# Altium integrated library SparkFun-Retired.IntLib: 389 symbols (part 2 of 4)
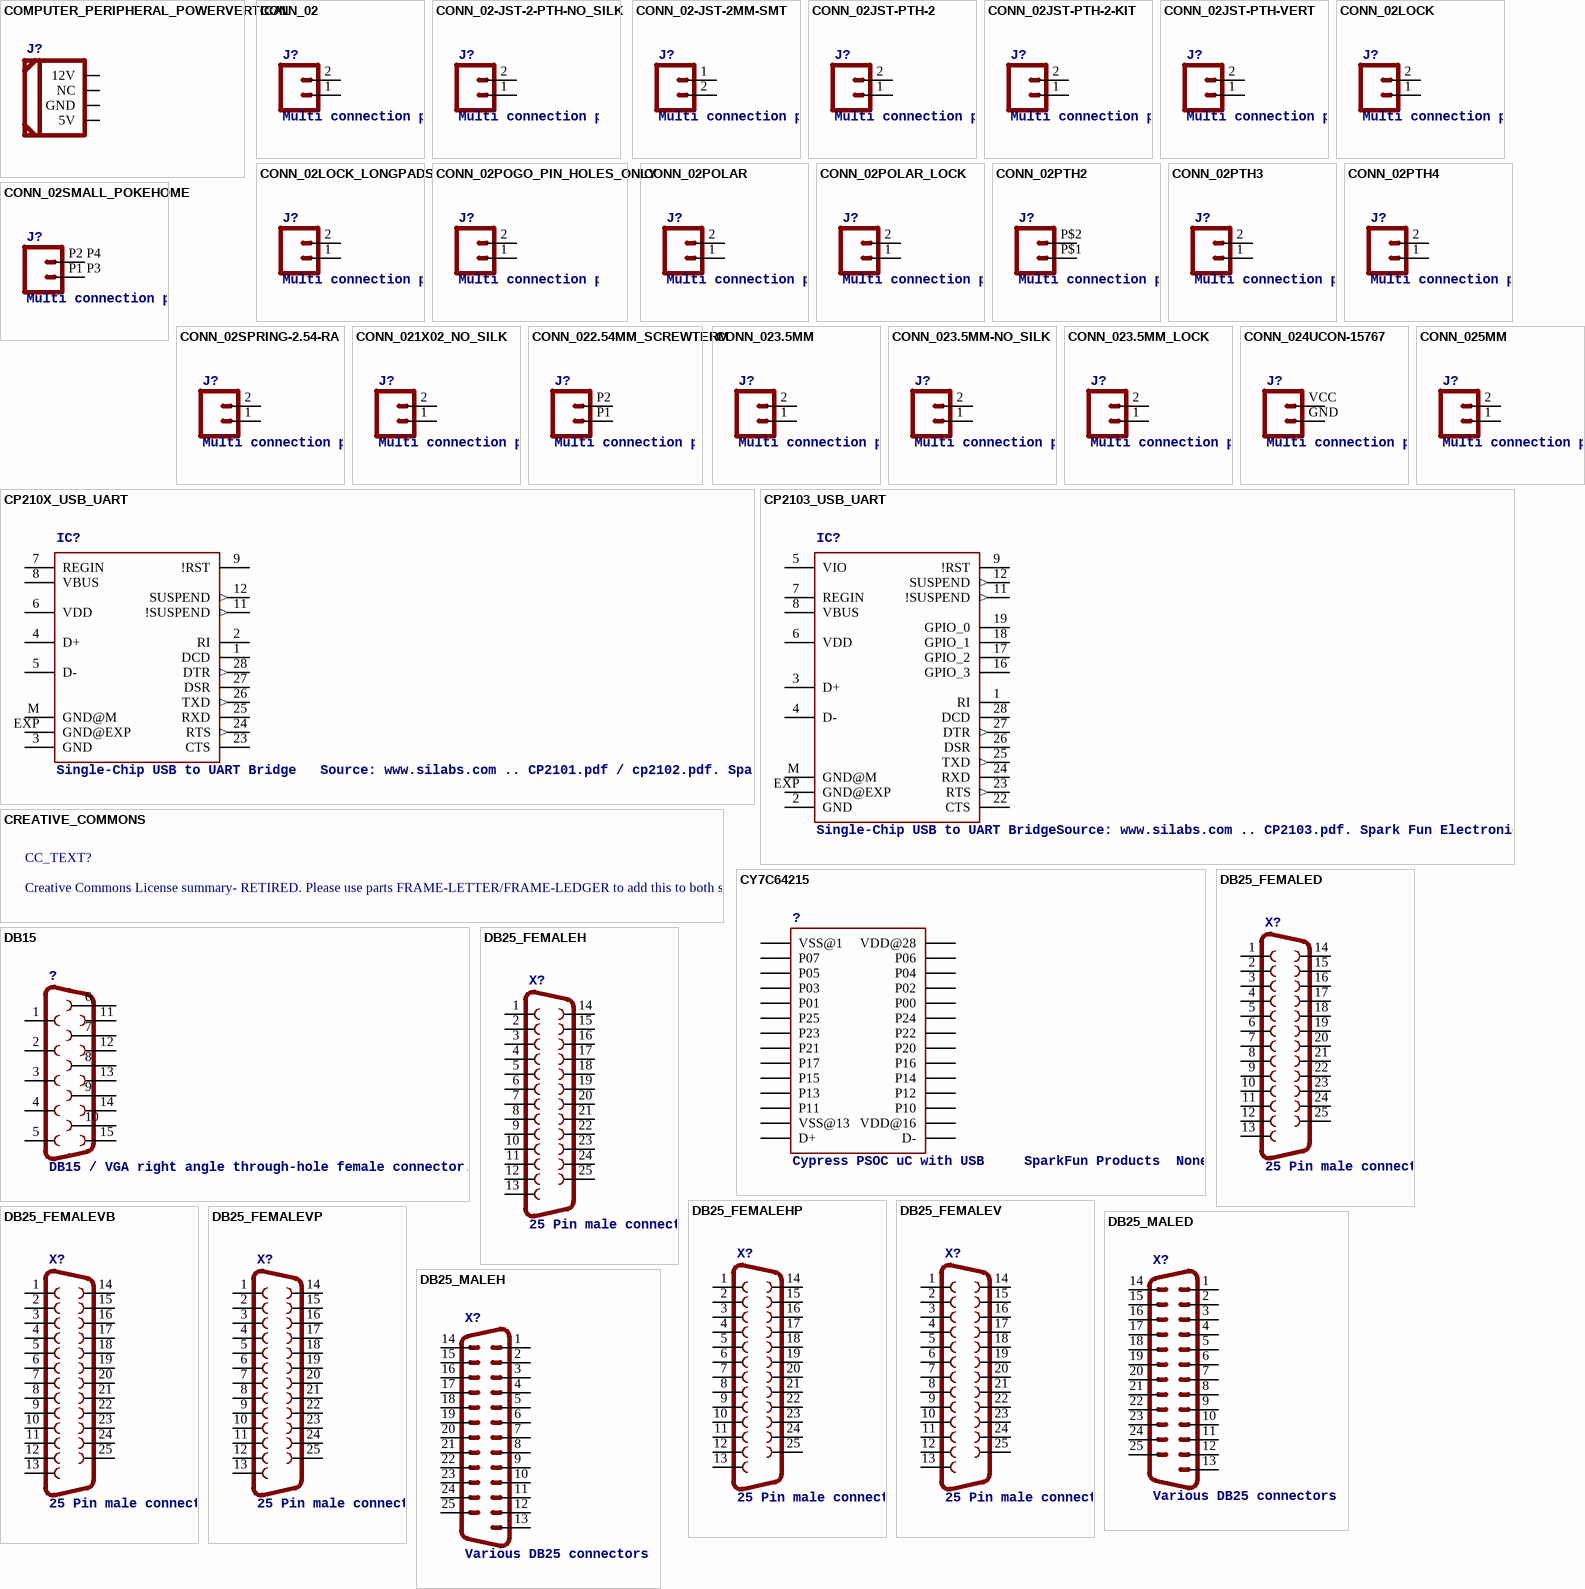
[diagram p30: symbols COMPUTER_PERIPHERAL_POWERVERTICAL to DB25_MALEH]

## CONN_02PTH2
designator J?, comment Multi connection point. Often used as Generic Header-pin footprint for 0.1 inch spaced/style header connections    On any of the 0.1 inch spaced packages, you can populate with these:  Break Away Headers - Straight (PRT-00116)   Break Away Male Headers - Right Angle (PRT-00553)   Female Headers (PRT-00115)   Break Away Headers - Machine Pin (PRT-00117)   Break Away Female Headers - Swiss Machine Pin (PRT-00743)        For SCREWTERMINALS and SPRING TERMINALS visit here:  Screw Terimnals on SparkFun.com (5mm/3.5mm/2.54mm spacing)       This device is also useful as a general connection point to wire up your design to another part of your project. Our various solder wires solder well into these plated through hole pads.  Hook-Up Wire - Assortment (Stranded, 22 AWG) (PRT-11375)   Hook-Up Wire - Assortment (Solid Core, 22 AWG) (PRT-11367)   View the entire wire category on our website here          Special notes: Molex polarized connector foot print use with: PRT-08233 with associated crimp pins and housings.  2.54_SCREWTERM for use with  PRT-10571.  3.5mm Screw Terminal footprints for  PRT-08084  5mm Screw Terminal footprints for use with PRT-08432
footprint 1X02_BIG
pins: P$1 1, P$2 2

## CONN_02PTH3
designator J?, comment Multi connection point. Often used as Generic Header-pin footprint for 0.1 inch spaced/style header connections    On any of the 0.1 inch spaced packages, you can populate with these:  Break Away Headers - Straight (PRT-00116)   Break Away Male Headers - Right Angle (PRT-00553)   Female Headers (PRT-00115)   Break Away Headers - Machine Pin (PRT-00117)   Break Away Female Headers - Swiss Machine Pin (PRT-00743)        For SCREWTERMINALS and SPRING TERMINALS visit here:  Screw Terimnals on SparkFun.com (5mm/3.5mm/2.54mm spacing)       This device is also useful as a general connection point to wire up your design to another part of your project. Our various solder wires solder well into these plated through hole pads.  Hook-Up Wire - Assortment (Stranded, 22 AWG) (PRT-11375)   Hook-Up Wire - Assortment (Solid Core, 22 AWG) (PRT-11367)   View the entire wire category on our website here          Special notes: Molex polarized connector foot print use with: PRT-08233 with associated crimp pins and housings.  2.54_SCREWTERM for use with  PRT-10571.  3.5mm Screw Terminal footprints for  PRT-08084  5mm Screw Terminal footprints for use with PRT-08432
footprint 1X02_LONGPADS
pins: 1, 2

## CONN_02PTH4
designator J?, comment Multi connection point. Often used as Generic Header-pin footprint for 0.1 inch spaced/style header connections    On any of the 0.1 inch spaced packages, you can populate with these:  Break Away Headers - Straight (PRT-00116)   Break Away Male Headers - Right Angle (PRT-00553)   Female Headers (PRT-00115)   Break Away Headers - Machine Pin (PRT-00117)   Break Away Female Headers - Swiss Machine Pin (PRT-00743)        For SCREWTERMINALS and SPRING TERMINALS visit here:  Screw Terimnals on SparkFun.com (5mm/3.5mm/2.54mm spacing)       This device is also useful as a general connection point to wire up your design to another part of your project. Our various solder wires solder well into these plated through hole pads.  Hook-Up Wire - Assortment (Stranded, 22 AWG) (PRT-11375)   Hook-Up Wire - Assortment (Solid Core, 22 AWG) (PRT-11367)   View the entire wire category on our website here          Special notes: Molex polarized connector foot print use with: PRT-08233 with associated crimp pins and housings.  2.54_SCREWTERM for use with  PRT-10571.  3.5mm Screw Terminal footprints for  PRT-08084  5mm Screw Terminal footprints for use with PRT-08432
footprint 1X02_XTRA_BIG
pins: 1, 2

## CONN_02SMALL_POKEHOME
designator J?, comment Multi connection point. Often used as Generic Header-pin footprint for 0.1 inch spaced/style header connections    On any of the 0.1 inch spaced packages, you can populate with these:  Break Away Headers - Straight (PRT-00116)   Break Away Male Headers - Right Angle (PRT-00553)   Female Headers (PRT-00115)   Break Away Headers - Machine Pin (PRT-00117)   Break Away Female Headers - Swiss Machine Pin (PRT-00743)        For SCREWTERMINALS and SPRING TERMINALS visit here:  Screw Terimnals on SparkFun.com (5mm/3.5mm/2.54mm spacing)       This device is also useful as a general connection point to wire up your design to another part of your project. Our various solder wires solder well into these plated through hole pads.  Hook-Up Wire - Assortment (Stranded, 22 AWG) (PRT-11375)   Hook-Up Wire - Assortment (Solid Core, 22 AWG) (PRT-11367)   View the entire wire category on our website here          Special notes: Molex polarized connector foot print use with: PRT-08233 with associated crimp pins and housings.  2.54_SCREWTERM for use with  PRT-10571.  3.5mm Screw Terminal footprints for  PRT-08084  5mm Screw Terminal footprints for use with PRT-08432
PROD_ID: CONN-13512
footprint 1X02_POKEHOME
pins: P1 P3 1, P2 P4 2

## CONN_02SPRING-2.54-RA
designator J?, comment Multi connection point. Often used as Generic Header-pin footprint for 0.1 inch spaced/style header connections    On any of the 0.1 inch spaced packages, you can populate with these:  Break Away Headers - Straight (PRT-00116)   Break Away Male Headers - Right Angle (PRT-00553)   Female Headers (PRT-00115)   Break Away Headers - Machine Pin (PRT-00117)   Break Away Female Headers - Swiss Machine Pin (PRT-00743)        For SCREWTERMINALS and SPRING TERMINALS visit here:  Screw Terimnals on SparkFun.com (5mm/3.5mm/2.54mm spacing)       This device is also useful as a general connection point to wire up your design to another part of your project. Our various solder wires solder well into these plated through hole pads.  Hook-Up Wire - Assortment (Stranded, 22 AWG) (PRT-11375)   Hook-Up Wire - Assortment (Solid Core, 22 AWG) (PRT-11367)   View the entire wire category on our website here          Special notes: Molex polarized connector foot print use with: PRT-08233 with associated crimp pins and housings.  2.54_SCREWTERM for use with  PRT-10571.  3.5mm Screw Terminal footprints for  PRT-08084  5mm Screw Terminal footprints for use with PRT-08432
footprint SPRINGTERMINAL-2.54MM-2
pins: 1, 2

## CONN_021X02_NO_SILK
designator J?, comment Multi connection point. Often used as Generic Header-pin footprint for 0.1 inch spaced/style header connections    On any of the 0.1 inch spaced packages, you can populate with these:  Break Away Headers - Straight (PRT-00116)   Break Away Male Headers - Right Angle (PRT-00553)   Female Headers (PRT-00115)   Break Away Headers - Machine Pin (PRT-00117)   Break Away Female Headers - Swiss Machine Pin (PRT-00743)        For SCREWTERMINALS and SPRING TERMINALS visit here:  Screw Terimnals on SparkFun.com (5mm/3.5mm/2.54mm spacing)       This device is also useful as a general connection point to wire up your design to another part of your project. Our various solder wires solder well into these plated through hole pads.  Hook-Up Wire - Assortment (Stranded, 22 AWG) (PRT-11375)   Hook-Up Wire - Assortment (Solid Core, 22 AWG) (PRT-11367)   View the entire wire category on our website here          Special notes: Molex polarized connector foot print use with: PRT-08233 with associated crimp pins and housings.  2.54_SCREWTERM for use with  PRT-10571.  3.5mm Screw Terminal footprints for  PRT-08084  5mm Screw Terminal footprints for use with PRT-08432
footprint 1X02_NO_SILK
pins: 1, 2

## CONN_022.54MM_SCREWTERM
designator J?, comment Multi connection point. Often used as Generic Header-pin footprint for 0.1 inch spaced/style header connections    On any of the 0.1 inch spaced packages, you can populate with these:  Break Away Headers - Straight (PRT-00116)   Break Away Male Headers - Right Angle (PRT-00553)   Female Headers (PRT-00115)   Break Away Headers - Machine Pin (PRT-00117)   Break Away Female Headers - Swiss Machine Pin (PRT-00743)        For SCREWTERMINALS and SPRING TERMINALS visit here:  Screw Terimnals on SparkFun.com (5mm/3.5mm/2.54mm spacing)       This device is also useful as a general connection point to wire up your design to another part of your project. Our various solder wires solder well into these plated through hole pads.  Hook-Up Wire - Assortment (Stranded, 22 AWG) (PRT-11375)   Hook-Up Wire - Assortment (Solid Core, 22 AWG) (PRT-11367)   View the entire wire category on our website here          Special notes: Molex polarized connector foot print use with: PRT-08233 with associated crimp pins and housings.  2.54_SCREWTERM for use with  PRT-10571.  3.5mm Screw Terminal footprints for  PRT-08084  5mm Screw Terminal footprints for use with PRT-08432
footprint 1X02_2.54_SCREWTERM
pins: P1 1, P2 2

## CONN_023.5MM
designator J?, comment Multi connection point. Often used as Generic Header-pin footprint for 0.1 inch spaced/style header connections    On any of the 0.1 inch spaced packages, you can populate with these:  Break Away Headers - Straight (PRT-00116)   Break Away Male Headers - Right Angle (PRT-00553)   Female Headers (PRT-00115)   Break Away Headers - Machine Pin (PRT-00117)   Break Away Female Headers - Swiss Machine Pin (PRT-00743)        For SCREWTERMINALS and SPRING TERMINALS visit here:  Screw Terimnals on SparkFun.com (5mm/3.5mm/2.54mm spacing)       This device is also useful as a general connection point to wire up your design to another part of your project. Our various solder wires solder well into these plated through hole pads.  Hook-Up Wire - Assortment (Stranded, 22 AWG) (PRT-11375)   Hook-Up Wire - Assortment (Solid Core, 22 AWG) (PRT-11367)   View the entire wire category on our website here          Special notes: Molex polarized connector foot print use with: PRT-08233 with associated crimp pins and housings.  2.54_SCREWTERM for use with  PRT-10571.  3.5mm Screw Terminal footprints for  PRT-08084  5mm Screw Terminal footprints for use with PRT-08432
PROD_ID: CONN-08399
footprint SCREWTERMINAL-3.5MM-2
pins: 1, 2

## CONN_023.5MM-NO_SILK
designator J?, comment Multi connection point. Often used as Generic Header-pin footprint for 0.1 inch spaced/style header connections    On any of the 0.1 inch spaced packages, you can populate with these:  Break Away Headers - Straight (PRT-00116)   Break Away Male Headers - Right Angle (PRT-00553)   Female Headers (PRT-00115)   Break Away Headers - Machine Pin (PRT-00117)   Break Away Female Headers - Swiss Machine Pin (PRT-00743)        For SCREWTERMINALS and SPRING TERMINALS visit here:  Screw Terimnals on SparkFun.com (5mm/3.5mm/2.54mm spacing)       This device is also useful as a general connection point to wire up your design to another part of your project. Our various solder wires solder well into these plated through hole pads.  Hook-Up Wire - Assortment (Stranded, 22 AWG) (PRT-11375)   Hook-Up Wire - Assortment (Solid Core, 22 AWG) (PRT-11367)   View the entire wire category on our website here          Special notes: Molex polarized connector foot print use with: PRT-08233 with associated crimp pins and housings.  2.54_SCREWTERM for use with  PRT-10571.  3.5mm Screw Terminal footprints for  PRT-08084  5mm Screw Terminal footprints for use with PRT-08432
PROD_ID: CONN-08399
footprint SCREWTERMINAL-3.5MM-2-NS
pins: 1, 2

## CONN_023.5MM_LOCK
designator J?, comment Multi connection point. Often used as Generic Header-pin footprint for 0.1 inch spaced/style header connections    On any of the 0.1 inch spaced packages, you can populate with these:  Break Away Headers - Straight (PRT-00116)   Break Away Male Headers - Right Angle (PRT-00553)   Female Headers (PRT-00115)   Break Away Headers - Machine Pin (PRT-00117)   Break Away Female Headers - Swiss Machine Pin (PRT-00743)        For SCREWTERMINALS and SPRING TERMINALS visit here:  Screw Terimnals on SparkFun.com (5mm/3.5mm/2.54mm spacing)       This device is also useful as a general connection point to wire up your design to another part of your project. Our various solder wires solder well into these plated through hole pads.  Hook-Up Wire - Assortment (Stranded, 22 AWG) (PRT-11375)   Hook-Up Wire - Assortment (Solid Core, 22 AWG) (PRT-11367)   View the entire wire category on our website here          Special notes: Molex polarized connector foot print use with: PRT-08233 with associated crimp pins and housings.  2.54_SCREWTERM for use with  PRT-10571.  3.5mm Screw Terminal footprints for  PRT-08084  5mm Screw Terminal footprints for use with PRT-08432
PROD_ID: CONN-08399
footprint SCREWTERMINAL-3.5MM-2_LOCK
pins: 1, 2

## CONN_024UCON-15767
designator J?, comment Multi connection point. Often used as Generic Header-pin footprint for 0.1 inch spaced/style header connections    On any of the 0.1 inch spaced packages, you can populate with these:  Break Away Headers - Straight (PRT-00116)   Break Away Male Headers - Right Angle (PRT-00553)   Female Headers (PRT-00115)   Break Away Headers - Machine Pin (PRT-00117)   Break Away Female Headers - Swiss Machine Pin (PRT-00743)        For SCREWTERMINALS and SPRING TERMINALS visit here:  Screw Terimnals on SparkFun.com (5mm/3.5mm/2.54mm spacing)       This device is also useful as a general connection point to wire up your design to another part of your project. Our various solder wires solder well into these plated through hole pads.  Hook-Up Wire - Assortment (Stranded, 22 AWG) (PRT-11375)   Hook-Up Wire - Assortment (Solid Core, 22 AWG) (PRT-11367)   View the entire wire category on our website here          Special notes: Molex polarized connector foot print use with: PRT-08233 with associated crimp pins and housings.  2.54_SCREWTERM for use with  PRT-10571.  3.5mm Screw Terminal footprints for  PRT-08084  5mm Screw Terminal footprints for use with PRT-08432
footprint JST-2-SMD-VERT
pins: GND 1, VCC 2

## CONN_025MM
designator J?, comment Multi connection point. Often used as Generic Header-pin footprint for 0.1 inch spaced/style header connections    On any of the 0.1 inch spaced packages, you can populate with these:  Break Away Headers - Straight (PRT-00116)   Break Away Male Headers - Right Angle (PRT-00553)   Female Headers (PRT-00115)   Break Away Headers - Machine Pin (PRT-00117)   Break Away Female Headers - Swiss Machine Pin (PRT-00743)        For SCREWTERMINALS and SPRING TERMINALS visit here:  Screw Terimnals on SparkFun.com (5mm/3.5mm/2.54mm spacing)       This device is also useful as a general connection point to wire up your design to another part of your project. Our various solder wires solder well into these plated through hole pads.  Hook-Up Wire - Assortment (Stranded, 22 AWG) (PRT-11375)   Hook-Up Wire - Assortment (Solid Core, 22 AWG) (PRT-11367)   View the entire wire category on our website here          Special notes: Molex polarized connector foot print use with: PRT-08233 with associated crimp pins and housings.  2.54_SCREWTERM for use with  PRT-10571.  3.5mm Screw Terminal footprints for  PRT-08084  5mm Screw Terminal footprints for use with PRT-08432
SF_SKU: PRT-08432
footprint SCREWTERMINAL-5MM-2
pins: 1, 2

## CP210X_USB_UART
designator IC?, comment Single-Chip USB to UART Bridge   Source: www.silabs.com .. CP2101.pdf / cp2102.pdf. Spark Fun Electronics SKU : COM-00310   RETIRED: IC-00865
PROD_ID: COM-00310
footprint MLP28
pins: 1 DCD, 2 RI, 3 GND (power), 4 D+, 5 D-, 6 VDD (power), 7 REGIN, 8 VBUS, 9 !RST, 11 !SUSPEND (out), 12 SUSPEND (out), 23 CTS, 24 RTS (out), 25 RXD, 26 TXD (out), 27 DSR, 28 DTR (out), EXP GND@EXP (power), M GND@M (power)

## CP2103_USB_UART
designator IC?, comment Single-Chip USB to UART BridgeSource: www.silabs.com .. CP2103.pdf. Spark Fun Electronics SKU : COM-00309   Retired: IC-00866
PROD_ID: COM-00309
footprint MLP28
pins: 1 RI, 2 GND (power), 3 D+, 4 D-, 5 VIO (power), 6 VDD (power), 7 REGIN, 8 VBUS, 9 !RST, 11 !SUSPEND (out), 12 SUSPEND (out), 16 GPIO_3, 17 GPIO_2, 18 GPIO_1, 19 GPIO_0, 22 CTS, 23 RTS (out), 24 RXD, 25 TXD (out), 26 DSR, 27 DTR (out), 28 DCD, EXP GND@EXP (power), M GND@M (power)

## CREATIVE_COMMONS
designator CC_TEXT?, comment Creative Commons License summary- RETIRED. Please use parts FRAME-LETTER/FRAME-LEDGER to add this to both schematic and board file.
footprint CREATIVE_COMMONS

## CY7C64215
designator ?, comment Cypress PSOC uC with USB     SparkFun Products  None
footprint SSOP28DB_MCU
pins: 1 VSS@1, 2 P07, 3 P05, 4 P03, 5 P01, 6 P25, 7 P23, 8 P21, 9 P17, 10 P15, 11 P13, 12 P11, 13 VSS@13, 14 D+, 15 D-, 16 VDD@16, 17 P10, 18 P12, 19 P14, 20 P16, 21 P20, 22 P22, 23 P24, 24 P00, 25 P02, 26 P04, 27 P06, 28 VDD@28

## DB15
designator ?, comment DB15 / VGA right angle through-hole female connector.
footprint DB15
pins: 1, 2, 3, 4, 5, 6, 7, 8, 9, 10, 11, 12, 13, 14, 15

## DB25_FEMALED
designator X?, comment 25 Pin male connector. PCB edge mount for regular PCB thicknesses. This connector will connect directly to the back of a PC parallel port or through a normal DB25 extension cable (M/F). SKU: PRT-08287
footprint F25D
pins: 1, 2, 3, 4, 5, 6, 7, 8, 9, 10, 11, 12, 13, 14, 15, 16, 17, 18, 19, 20, 21, 22, 23, 24, 25

## DB25_FEMALEH
designator X?, comment 25 Pin male connector. PCB edge mount for regular PCB thicknesses. This connector will connect directly to the back of a PC parallel port or through a normal DB25 extension cable (M/F). SKU: PRT-08287
footprint F25H
pins: 1, 2, 3, 4, 5, 6, 7, 8, 9, 10, 11, 12, 13, 14, 15, 16, 17, 18, 19, 20, 21, 22, 23, 24, 25

## DB25_FEMALEHP
designator X?, comment 25 Pin male connector. PCB edge mount for regular PCB thicknesses. This connector will connect directly to the back of a PC parallel port or through a normal DB25 extension cable (M/F). SKU: PRT-08287
footprint F25HP
pins: 1, 2, 3, 4, 5, 6, 7, 8, 9, 10, 11, 12, 13, 14, 15, 16, 17, 18, 19, 20, 21, 22, 23, 24, 25

## DB25_FEMALEV
designator X?, comment 25 Pin male connector. PCB edge mount for regular PCB thicknesses. This connector will connect directly to the back of a PC parallel port or through a normal DB25 extension cable (M/F). SKU: PRT-08287
footprint F25V
pins: 1, 2, 3, 4, 5, 6, 7, 8, 9, 10, 11, 12, 13, 14, 15, 16, 17, 18, 19, 20, 21, 22, 23, 24, 25

## DB25_FEMALEVB
designator X?, comment 25 Pin male connector. PCB edge mount for regular PCB thicknesses. This connector will connect directly to the back of a PC parallel port or through a normal DB25 extension cable (M/F). SKU: PRT-08287
footprint F25VB
pins: 1, 2, 3, 4, 5, 6, 7, 8, 9, 10, 11, 12, 13, 14, 15, 16, 17, 18, 19, 20, 21, 22, 23, 24, 25

## DB25_FEMALEVP
designator X?, comment 25 Pin male connector. PCB edge mount for regular PCB thicknesses. This connector will connect directly to the back of a PC parallel port or through a normal DB25 extension cable (M/F). SKU: PRT-08287
footprint F25VP
pins: 1, 2, 3, 4, 5, 6, 7, 8, 9, 10, 11, 12, 13, 14, 15, 16, 17, 18, 19, 20, 21, 22, 23, 24, 25

## DB25_MALED
designator X?, comment Various DB25 connectors
footprint M25D
pins: 1, 2, 3, 4, 5, 6, 7, 8, 9, 10, 11, 12, 13, 14, 15, 16, 17, 18, 19, 20, 21, 22, 23, 24, 25

## DB25_MALEH
designator X?, comment Various DB25 connectors
footprint M25H
pins: 1, 2, 3, 4, 5, 6, 7, 8, 9, 10, 11, 12, 13, 14, 15, 16, 17, 18, 19, 20, 21, 22, 23, 24, 25

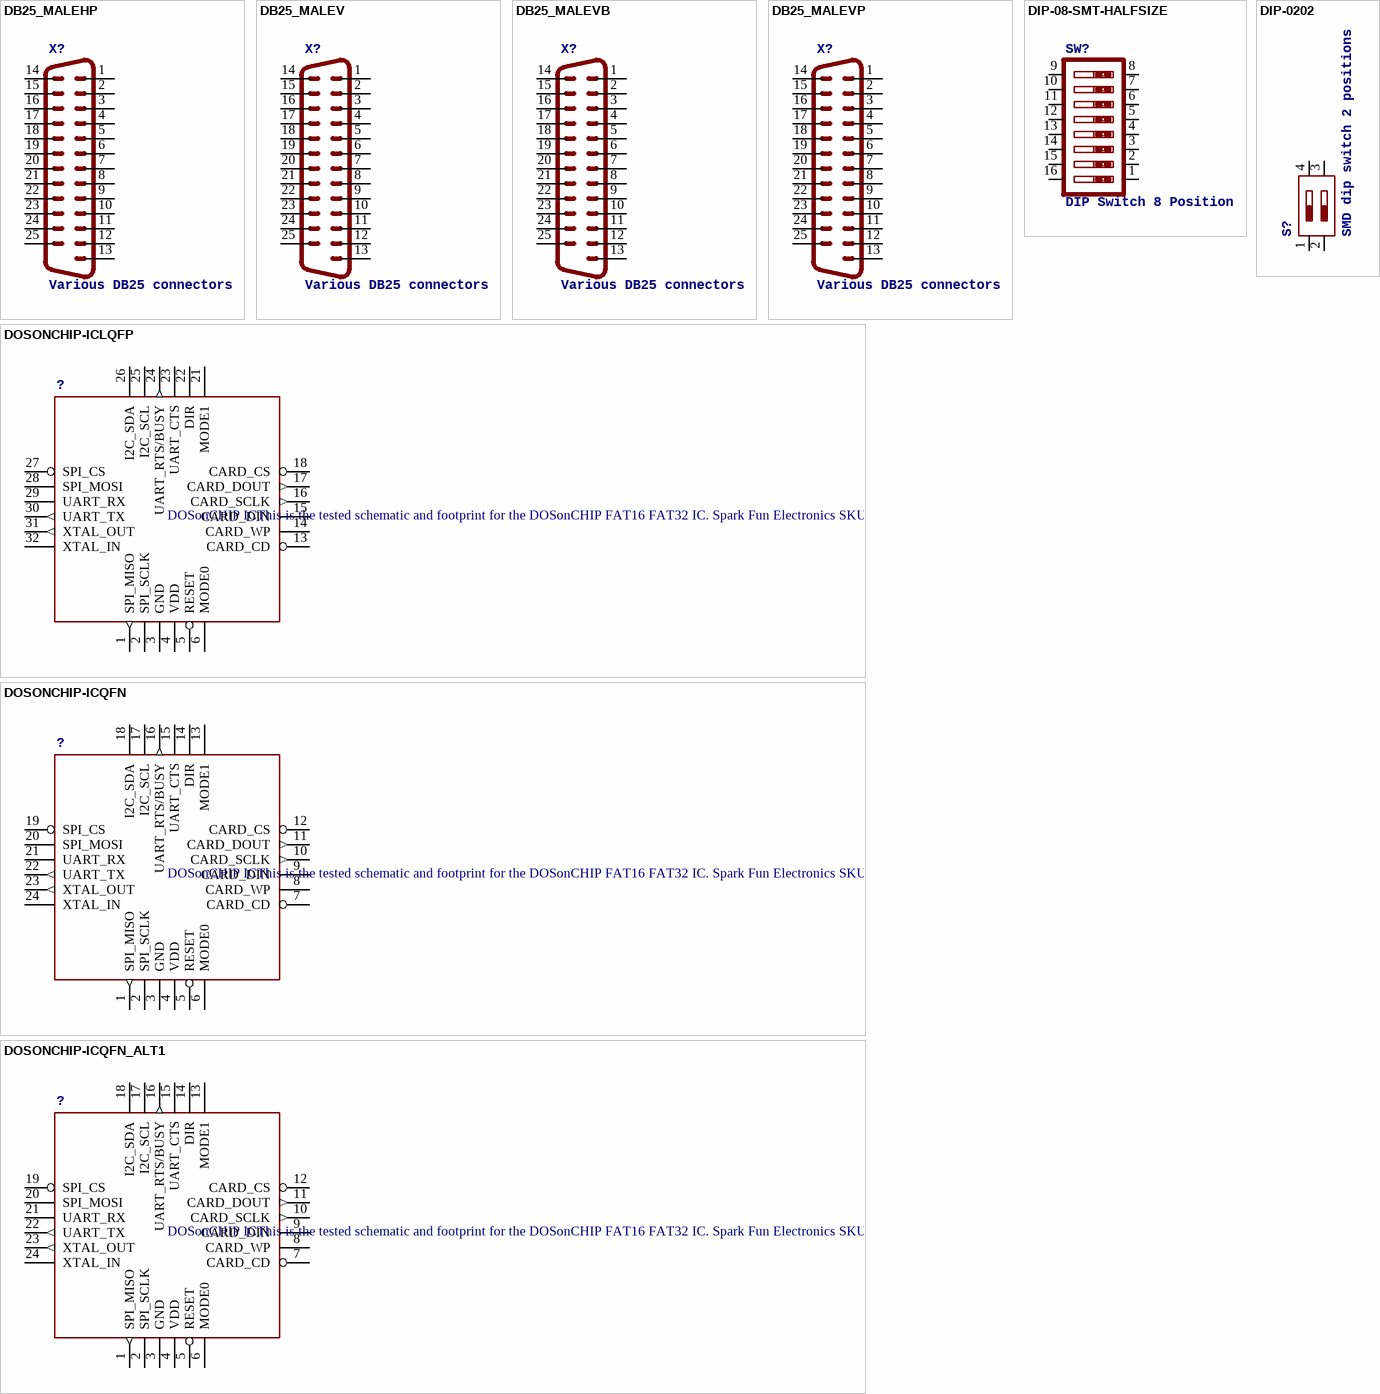
[diagram p9: symbols DB25_MALEHP to DOSONCHIP-ICQFN_ALT1]

## DB25_MALEHP
designator X?, comment Various DB25 connectors
footprint M25HP
pins: 1, 2, 3, 4, 5, 6, 7, 8, 9, 10, 11, 12, 13, 14, 15, 16, 17, 18, 19, 20, 21, 22, 23, 24, 25

## DB25_MALEV
designator X?, comment Various DB25 connectors
footprint M25V
pins: 1, 2, 3, 4, 5, 6, 7, 8, 9, 10, 11, 12, 13, 14, 15, 16, 17, 18, 19, 20, 21, 22, 23, 24, 25

## DB25_MALEVB
designator X?, comment Various DB25 connectors
footprint M25VB
pins: 1, 2, 3, 4, 5, 6, 7, 8, 9, 10, 11, 12, 13, 14, 15, 16, 17, 18, 19, 20, 21, 22, 23, 24, 25

## DB25_MALEVP
designator X?, comment Various DB25 connectors
footprint M25VP
pins: 1, 2, 3, 4, 5, 6, 7, 8, 9, 10, 11, 12, 13, 14, 15, 16, 17, 18, 19, 20, 21, 22, 23, 24, 25

## DIP-08-SMT-HALFSIZE
designator SW?, comment DIP Switch 8 Position
footprint DIPSWITCH-08-50MIL
pins: 1, 2, 3, 4, 5, 6, 7, 8, 9, 10, 11, 12, 13, 14, 15, 16

## DIP-0202
designator S?, comment SMD dip switch 2 positions
footprint DIPSWITCH-02
pins: 1 P$1, 2 P$2, 3 P$3, 4 P$4

## DOSONCHIP-ICLQFP
designator ?, comment DOSonCHIP ICThis is the tested schematic and footprint for the DOSonCHIP FAT16 FAT32 IC. Spark Fun Electronics SKU : COM-07956. QFN package also tested/proven.
footprint LQFP-32
pins: 1 SPI_MISO (out), 2 SPI_SCLK, 3 GND, 4 VDD, 5 RESET, 6 MODE0, 13 CARD_CD, 14 CARD_WP, 15 CARD_DIN, 16 CARD_SCLK (out), 17 CARD_DOUT (out), 18 CARD_CS, 21 MODE1, 22 DIR, 23 UART_CTS, 24 UART_RTS/BUSY (out), 25 I2C_SCL, 26 I2C_SDA, 27 SPI_CS, 28 SPI_MOSI, 29 UART_RX, 30 UART_TX (out), 31 XTAL_OUT (out), 32 XTAL_IN

## DOSONCHIP-ICQFN
designator ?, comment DOSonCHIP ICThis is the tested schematic and footprint for the DOSonCHIP FAT16 FAT32 IC. Spark Fun Electronics SKU : COM-07956. QFN package also tested/proven.
footprint QFN-24
pins: 1 SPI_MISO (out), 2 SPI_SCLK, 3 GND, 4 VDD, 5 RESET, 6 MODE0, 7 CARD_CD, 8 CARD_WP, 9 CARD_DIN, 10 CARD_SCLK (out), 11 CARD_DOUT (out), 12 CARD_CS, 13 MODE1, 14 DIR, 15 UART_CTS, 16 UART_RTS/BUSY (out), 17 I2C_SCL, 18 I2C_SDA, 19 SPI_CS, 20 SPI_MOSI, 21 UART_RX, 22 UART_TX (out), 23 XTAL_OUT (out), 24 XTAL_IN

## DOSONCHIP-ICQFN_ALT1
designator ?, comment DOSonCHIP ICThis is the tested schematic and footprint for the DOSonCHIP FAT16 FAT32 IC. Spark Fun Electronics SKU : COM-07956. QFN package also tested/proven.
footprint QFN-24_ALT1.PAC
pins: 1 SPI_MISO (out), 2 SPI_SCLK, 3 GND, 4 VDD, 5 RESET, 6 MODE0, 7 CARD_CD, 8 CARD_WP, 9 CARD_DIN, 10 CARD_SCLK (out), 11 CARD_DOUT (out), 12 CARD_CS, 13 MODE1, 14 DIR, 15 UART_CTS, 16 UART_RTS/BUSY (out), 17 I2C_SCL, 18 I2C_SDA, 19 SPI_CS, 20 SPI_MOSI, 21 UART_RX, 22 UART_TX (out), 23 XTAL_OUT (out), 24 XTAL_IN

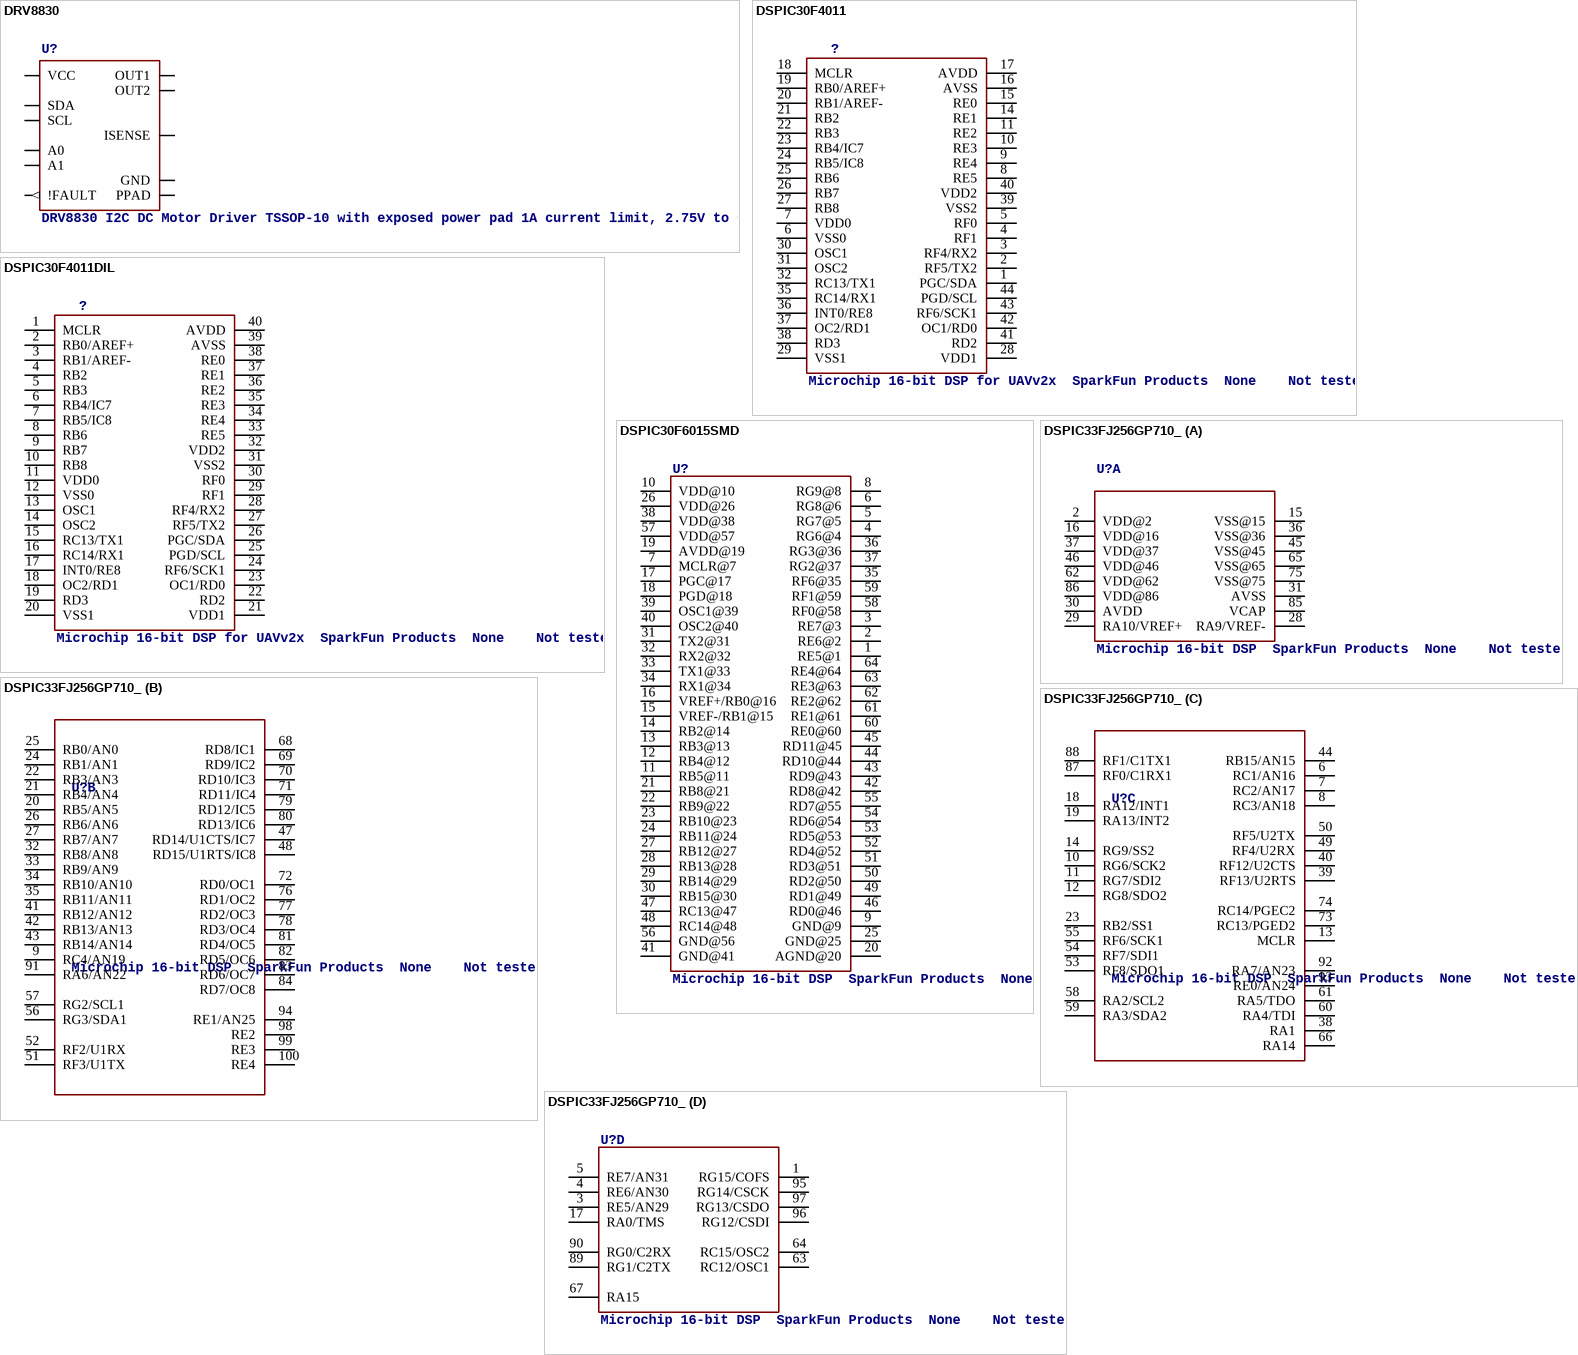
[diagram p10: symbols DRV8830 to DSPIC33FJ256GP710_]

## DRV8830
designator U?, comment DRV8830 I2C DC Motor Driver TSSOP-10 with exposed power pad 1A current limit, 2.75V to 6.8V
PROD_ID: IC-11646
footprint MSOP-10-GNDPAD
pins: 1 OUT2 (power), 2 ISENSE, 3 OUT1 (power), 4 VCC (power), 5 GND (power), 6 !FAULT (out), 7 A0, 8 A1, 9 SDA, 10 SCL, GND PPAD (power)

## DSPIC30F4011
designator ?, comment Microchip 16-bit DSP for UAVv2x  SparkFun Products  None    Not tested
footprint TQFP44_MCU
pins: 1 PGC/SDA, 2 RF5/TX2, 3 RF4/RX2, 4 RF1, 5 RF0, 6 VSS0, 7 VDD0, 8 RE5, 9 RE4, 10 RE3, 11 RE2, 14 RE1, 15 RE0, 16 AVSS, 17 AVDD, 18 MCLR, 19 RB0/AREF+, 20 RB1/AREF-, 21 RB2, 22 RB3, 23 RB4/IC7, 24 RB5/IC8, 25 RB6, 26 RB7, 27 RB8, 28 VDD1, 29 VSS1, 30 OSC1, 31 OSC2, 32 RC13/TX1, 35 RC14/RX1, 36 INT0/RE8, 37 OC2/RD1, 38 RD3, 39 VSS2, 40 VDD2, 41 RD2, 42 OC1/RD0, 43 RF6/SCK1, 44 PGD/SCL

## DSPIC30F4011DIL
designator ?, comment Microchip 16-bit DSP for UAVv2x  SparkFun Products  None    Not tested
footprint DIP40_MCU
pins: 1 MCLR, 2 RB0/AREF+, 3 RB1/AREF-, 4 RB2, 5 RB3, 6 RB4/IC7, 7 RB5/IC8, 8 RB6, 9 RB7, 10 RB8, 11 VDD0, 12 VSS0, 13 OSC1, 14 OSC2, 15 RC13/TX1, 16 RC14/RX1, 17 INT0/RE8, 18 OC2/RD1, 19 RD3, 20 VSS1, 21 VDD1, 22 RD2, 23 OC1/RD0, 24 RF6/SCK1, 25 PGD/SCL, 26 PGC/SDA, 27 RF5/TX2, 28 RF4/RX2, 29 RF1, 30 RF0, 31 VSS2, 32 VDD2, 33 RE5, 34 RE4, 35 RE3, 36 RE2, 37 RE1, 38 RE0, 39 AVSS, 40 AVDD

## DSPIC30F6015SMD
designator U?, comment Microchip 16-bit DSP  SparkFun Products  None
footprint TQFP64_MCU
pins: 1 RE5@1, 2 RE6@2, 3 RE7@3, 4 RG6@4, 5 RG7@5, 6 RG8@6, 7 MCLR@7, 8 RG9@8, 9 GND@9, 10 VDD@10, 11 RB5@11, 12 RB4@12, 13 RB3@13, 14 RB2@14, 15 VREF-/RB1@15, 16 VREF+/RB0@16, 17 PGC@17, 18 PGD@18, 19 AVDD@19, 20 AGND@20, 21 RB8@21, 22 RB9@22, 23 RB10@23, 24 RB11@24, 25 GND@25, 26 VDD@26, 27 RB12@27, 28 RB13@28, 29 RB14@29, 30 RB15@30, 31 TX2@31, 32 RX2@32, 33 TX1@33, 34 RX1@34, 35 RF6@35, 36 RG3@36, 37 RG2@37, 38 VDD@38, 39 OSC1@39, 40 OSC2@40, 41 GND@41, 42 RD8@42, 43 RD9@43, 44 RD10@44, 45 RD11@45, 46 RD0@46, 47 RC13@47, 48 RC14@48, 49 RD1@49, 50 RD2@50, 51 RD3@51, 52 RD4@52, 53 RD5@53, 54 RD6@54, 55 RD7@55, 56 GND@56, 57 VDD@57, 58 RF0@58, 59 RF1@59, 60 RE0@60, 61 RE1@61, 62 RE2@62, 63 RE3@63, 64 RE4@64

## DSPIC33FJ256GP710_
designator U?, comment Microchip 16-bit DSP  SparkFun Products  None    Not tested
footprint TQFP-100-12X12MM_MCU
part A pins: 2 VDD@2, 15 VSS@15, 16 VDD@16, 28 RA9/VREF-, 29 RA10/VREF+, 30 AVDD, 31 AVSS, 36 VSS@36, 37 VDD@37, 45 VSS@45, 46 VDD@46, 62 VDD@62, 65 VSS@65, 75 VSS@75, 85 VCAP, 86 VDD@86
part B pins: 9 RC4/AN19, 20 RB5/AN5, 21 RB4/AN4, 22 RB3/AN3, 24 RB1/AN1, 25 RB0/AN0, 26 RB6/AN6, 27 RB7/AN7, 32 RB8/AN8, 33 RB9/AN9, 34 RB10/AN10, 35 RB11/AN11, 41 RB12/AN12, 42 RB13/AN13, 43 RB14/AN14, 47 RD14/U1CTS/IC7, 48 RD15/U1RTS/IC8, 51 RF3/U1TX, 52 RF2/U1RX, 56 RG3/SDA1, 57 RG2/SCL1, 68 RD8/IC1, 69 RD9/IC2, 70 RD10/IC3, 71 RD11/IC4, 72 RD0/OC1, 76 RD1/OC2, 77 RD2/OC3, 78 RD3/OC4, 79 RD12/IC5, 80 RD13/IC6, 81 RD4/OC5, 82 RD5/OC6, 83 RD6/OC7, 84 RD7/OC8, 91 RA6/AN22, 94 RE1/AN25, 98 RE2, 99 RE3, 100 RE4
part C pins: 6 RC1/AN16, 7 RC2/AN17, 8 RC3/AN18, 10 RG6/SCK2, 11 RG7/SDI2, 12 RG8/SDO2, 13 MCLR, 14 RG9/SS2, 18 RA12/INT1, 19 RA13/INT2, 23 RB2/SS1, 38 RA1, 39 RF13/U2RTS, 40 RF12/U2CTS, 44 RB15/AN15, 49 RF4/U2RX, 50 RF5/U2TX, 53 RF8/SDO1, 54 RF7/SDI1, 55 RF6/SCK1, 58 RA2/SCL2, 59 RA3/SDA2, 60 RA4/TDI, 61 RA5/TDO, 66 RA14, 73 RC13/PGED2, 74 RC14/PGEC2, 87 RF0/C1RX1, 88 RF1/C1TX1, 92 RA7/AN23, 93 RE0/AN24
part D pins: 1 RG15/COFS, 3 RE5/AN29, 4 RE6/AN30, 5 RE7/AN31, 17 RA0/TMS, 63 RC12/OSC1, 64 RC15/OSC2, 67 RA15, 89 RG1/C2TX, 90 RG0/C2RX, 95 RG14/CSCK, 96 RG12/CSDI, 97 RG13/CSDO

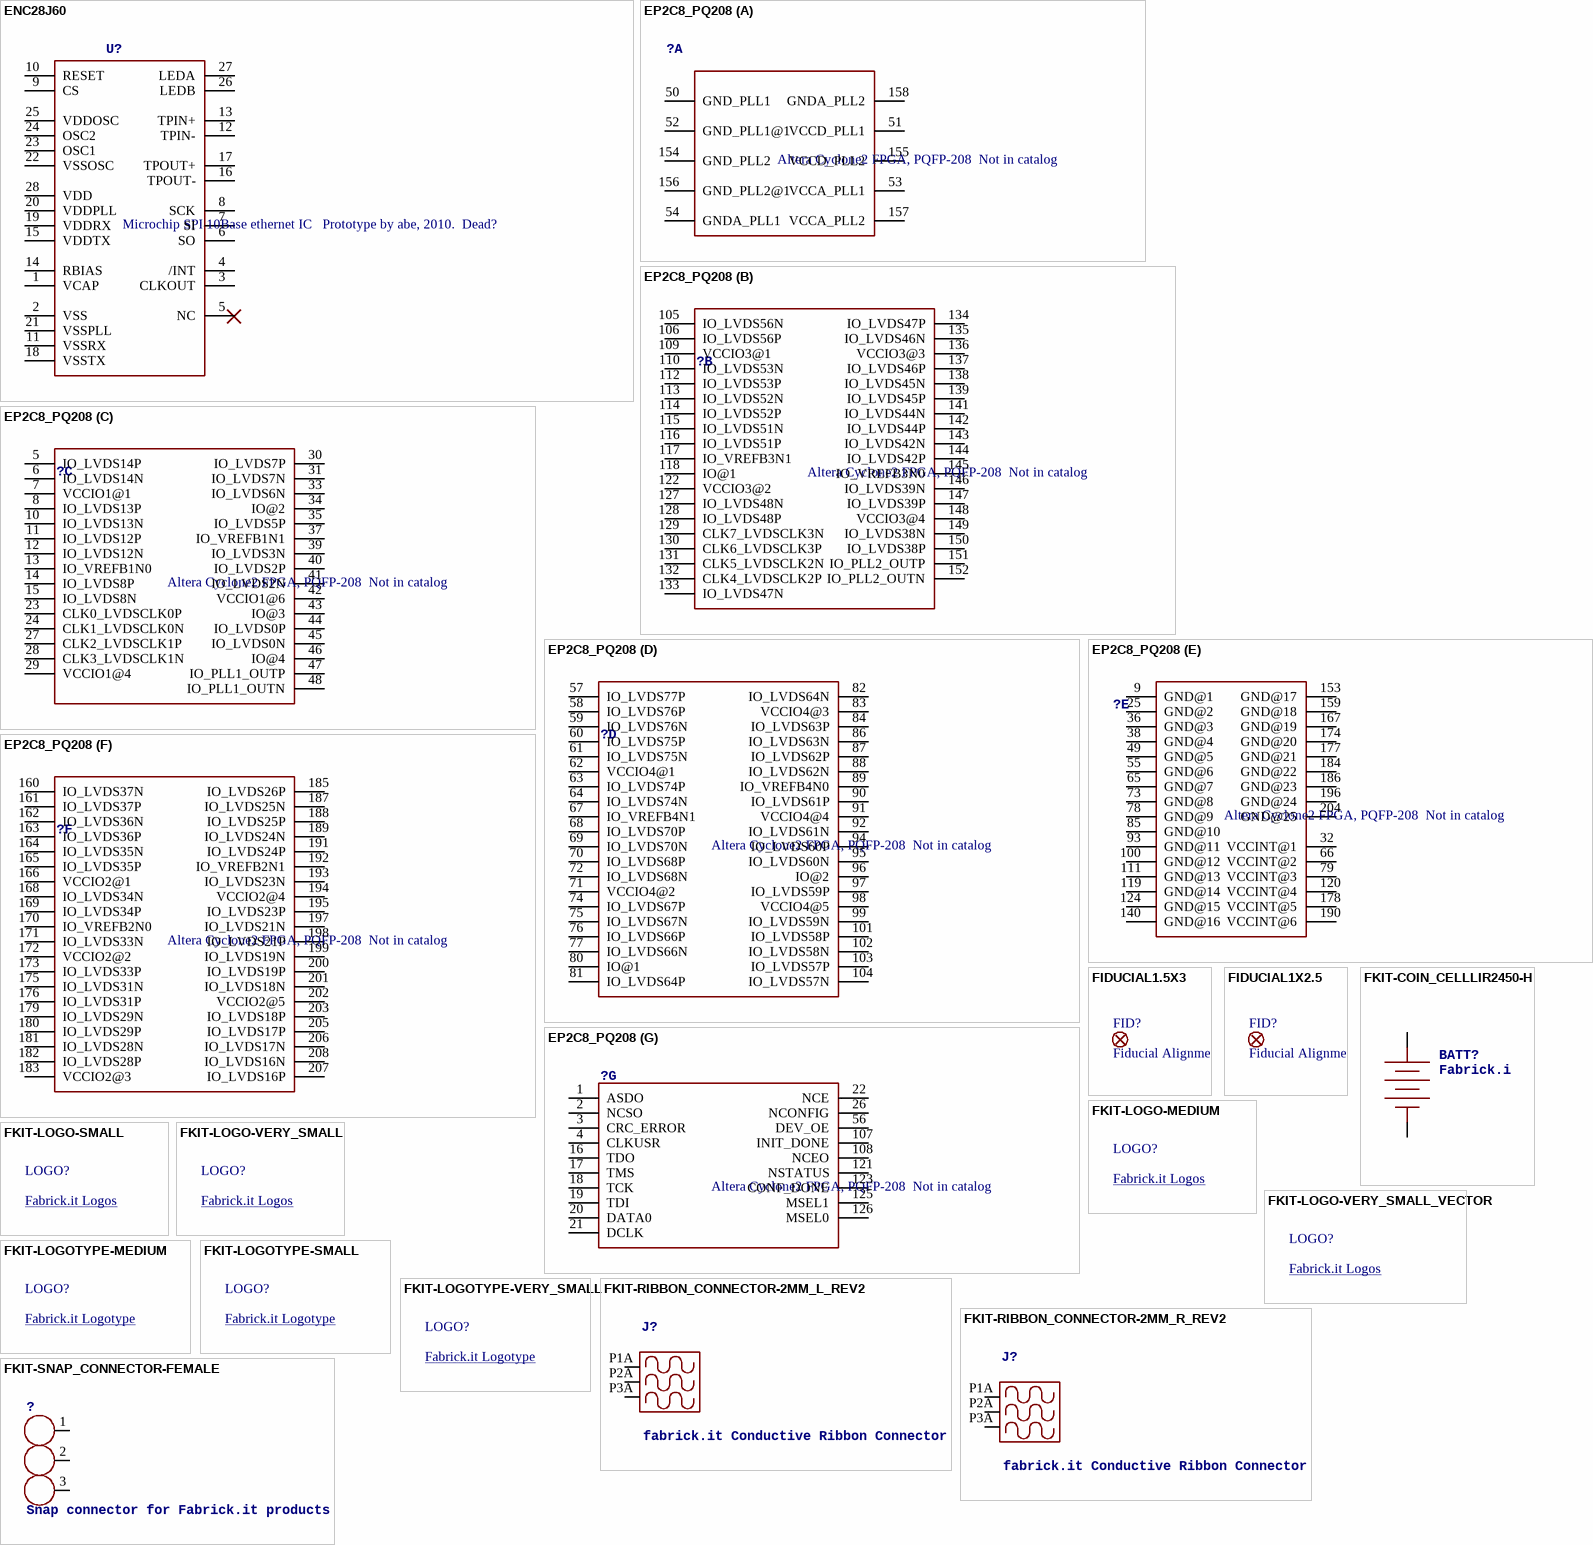
[diagram p11: symbols ENC28J60 to FKIT-SNAP_CONNECTOR-FEMALE]

## ENC28J60
designator U?, comment Microchip SPI 10Base ethernet IC   Prototype by abe, 2010.  Dead?
PROD_ID: IC-09541
footprint SSOP28DB
pins: 1 VCAP, 2 VSS, 3 CLKOUT, 4 /INT, 5 NC, 6 SO, 7 SI, 8 SCK, 9 CS, 10 RESET, 11 VSSRX, 12 TPIN-, 13 TPIN+, 14 RBIAS, 15 VDDTX, 16 TPOUT-, 17 TPOUT+, 18 VSSTX, 19 VDDRX, 20 VDDPLL, 21 VSSPLL, 22 VSSOSC, 23 OSC1, 24 OSC2, 25 VDDOSC, 26 LEDB, 27 LEDA, 28 VDD

## EP2C8_PQ208
designator ?, comment Altera Cyclone2 FPGA, PQFP-208  Not in catalog
footprint PQFP208
part A pins: 50 GND_PLL1 (power), 51 VCCD_PLL1 (power), 52 GND_PLL1@1 (power), 53 VCCA_PLL1 (power), 54 GNDA_PLL1 (power), 154 GND_PLL2 (power), 155 VCCD_PLL2 (power), 156 GND_PLL2@1 (power), 157 VCCA_PLL2 (power), 158 GNDA_PLL2 (power)
part B pins: 105 IO_LVDS56N, 106 IO_LVDS56P, 109 VCCIO3@1, 110 IO_LVDS53N, 112 IO_LVDS53P, 113 IO_LVDS52N, 114 IO_LVDS52P, 115 IO_LVDS51N, 116 IO_LVDS51P, 117 IO_VREFB3N1, 118 IO@1, 122 VCCIO3@2, 127 IO_LVDS48N, 128 IO_LVDS48P, 129 CLK7_LVDSCLK3N, 130 CLK6_LVDSCLK3P, 131 CLK5_LVDSCLK2N, 132 CLK4_LVDSCLK2P, 133 IO_LVDS47N, 134 IO_LVDS47P, 135 IO_LVDS46N, 136 VCCIO3@3, 137 IO_LVDS46P, 138 IO_LVDS45N, 139 IO_LVDS45P, 141 IO_LVDS44N, 142 IO_LVDS44P, 143 IO_LVDS42N, 144 IO_LVDS42P, 145 IO_VREFB3N0, 146 IO_LVDS39N, 147 IO_LVDS39P, 148 VCCIO3@4, 149 IO_LVDS38N, 150 IO_LVDS38P, 151 IO_PLL2_OUTP, 152 IO_PLL2_OUTN
part C pins: 5 IO_LVDS14P, 6 IO_LVDS14N, 7 VCCIO1@1, 8 IO_LVDS13P, 10 IO_LVDS13N, 11 IO_LVDS12P, 12 IO_LVDS12N, 13 IO_VREFB1N0, 14 IO_LVDS8P, 15 IO_LVDS8N, 23 CLK0_LVDSCLK0P, 24 CLK1_LVDSCLK0N, 27 CLK2_LVDSCLK1P, 28 CLK3_LVDSCLK1N, 29 VCCIO1@4, 30 IO_LVDS7P, 31 IO_LVDS7N, 33 IO_LVDS6N, 34 IO@2, 35 IO_LVDS5P, 37 IO_VREFB1N1, 39 IO_LVDS3N, 40 IO_LVDS2P, 41 IO_LVDS2N, 42 VCCIO1@6, 43 IO@3, 44 IO_LVDS0P, 45 IO_LVDS0N, 46 IO@4, 47 IO_PLL1_OUTP, 48 IO_PLL1_OUTN
part D pins: 57 IO_LVDS77P, 58 IO_LVDS76P, 59 IO_LVDS76N, 60 IO_LVDS75P, 61 IO_LVDS75N, 62 VCCIO4@1, 63 IO_LVDS74P, 64 IO_LVDS74N, 67 IO_VREFB4N1, 68 IO_LVDS70P, 69 IO_LVDS70N, 70 IO_LVDS68P, 71 VCCIO4@2, 72 IO_LVDS68N, 74 IO_LVDS67P, 75 IO_LVDS67N, 76 IO_LVDS66P, 77 IO_LVDS66N, 80 IO@1, 81 IO_LVDS64P, 82 IO_LVDS64N, 83 VCCIO4@3, 84 IO_LVDS63P, 86 IO_LVDS63N, 87 IO_LVDS62P, 88 IO_LVDS62N, 89 IO_VREFB4N0, 90 IO_LVDS61P, 91 VCCIO4@4, 92 IO_LVDS61N, 94 IO_LVDS60P, 95 IO_LVDS60N, 96 IO@2, 97 IO_LVDS59P, 98 VCCIO4@5, 99 IO_LVDS59N, 101 IO_LVDS58P, 102 IO_LVDS58N, 103 IO_LVDS57P, 104 IO_LVDS57N
part E pins: 9 GND@1 (power), 25 GND@2 (power), 32 VCCINT@1 (power), 36 GND@3 (power), 38 GND@4 (power), 49 GND@5 (power), 55 GND@6 (power), 65 GND@7 (power), 66 VCCINT@2 (power), 73 GND@8 (power), 78 GND@9 (power), 79 VCCINT@3 (power), 85 GND@10 (power), 93 GND@11 (power), 100 GND@12 (power), 111 GND@13 (power), 119 GND@14 (power), 120 VCCINT@4 (power), 124 GND@15, 140 GND@16, 153 GND@17, 159 GND@18, 167 GND@19, 174 GND@20, 177 GND@21, 178 VCCINT@5 (power), 184 GND@22, 186 GND@23, 190 VCCINT@6 (power), 196 GND@24, 204 GND@25
part F pins: 160 IO_LVDS37N, 161 IO_LVDS37P, 162 IO_LVDS36N, 163 IO_LVDS36P, 164 IO_LVDS35N, 165 IO_LVDS35P, 166 VCCIO2@1, 168 IO_LVDS34N, 169 IO_LVDS34P, 170 IO_VREFB2N0, 171 IO_LVDS33N, 172 VCCIO2@2, 173 IO_LVDS33P, 175 IO_LVDS31N, 176 IO_LVDS31P, 179 IO_LVDS29N, 180 IO_LVDS29P, 181 IO_LVDS28N, 182 IO_LVDS28P, 183 VCCIO2@3, 185 IO_LVDS26P, 187 IO_LVDS25N, 188 IO_LVDS25P, 189 IO_LVDS24N, 191 IO_LVDS24P, 192 IO_VREFB2N1, 193 IO_LVDS23N, 194 VCCIO2@4, 195 IO_LVDS23P, 197 IO_LVDS21N, 198 IO_LVDS21P, 199 IO_LVDS19N, 200 IO_LVDS19P, 201 IO_LVDS18N, 202 VCCIO2@5, 203 IO_LVDS18P, 205 IO_LVDS17P, 206 IO_LVDS17N, 207 IO_LVDS16P, 208 IO_LVDS16N
part G pins: 1 ASDO, 2 NCSO, 3 CRC_ERROR, 4 CLKUSR, 16 TDO, 17 TMS, 18 TCK, 19 TDI, 20 DATA0, 21 DCLK, 22 NCE, 26 NCONFIG, 56 DEV_OE, 107 INIT_DONE, 108 NCEO, 121 NSTATUS, 123 CONF_DONE, 125 MSEL1, 126 MSEL0

## FIDUCIAL1.5X3
designator FID?, comment Fiducial Alignment PointsVarious fiducial points for machine vision alignment.
footprint FIDUCIAL-1.5X3

## FIDUCIAL1X2.5
designator FID?, comment Fiducial Alignment PointsVarious fiducial points for machine vision alignment.
footprint FIDUCIAL-1X2.5

## FKIT-COIN_CELLLIR2450-H
designator BATT?, comment Fabrick.it Coin Cell Holder Coin cell holder for 24.5mm rechargable coin cell
footprint FKIT-LIR2450-H
pins: NEG, POS

## FKIT-LOGO-MEDIUM
designator LOGO?, comment Fabrick.it Logos
footprint FKIT-LOGO_MEDIUM

## FKIT-LOGO-SMALL
designator LOGO?, comment Fabrick.it Logos
footprint FKIT-LOGO_SMALL

## FKIT-LOGO-VERY_SMALL
designator LOGO?, comment Fabrick.it Logos
footprint FKIT-LOGO_VERY_SMALL

## FKIT-LOGO-VERY_SMALL_VECTOR
designator LOGO?, comment Fabrick.it Logos
footprint FKIT-LOGO_VERY_SMALL

## FKIT-LOGOTYPE-MEDIUM
designator LOGO?, comment Fabrick.it Logotype
footprint FKIT-LOGOTYPE_MEDIUM

## FKIT-LOGOTYPE-SMALL
designator LOGO?, comment Fabrick.it Logotype
footprint FKIT-LOGOTYPE_SMALL

## FKIT-LOGOTYPE-VERY_SMALL
designator LOGO?, comment Fabrick.it Logotype
footprint FKIT-LOGOTYPE_VERY_SMALL

## FKIT-RIBBON_CONNECTOR-2MM_L_REV2
designator J?, comment fabrick.it Conductive Ribbon Connector
footprint FKIT-RIBBON_CONNECTOR_03_2MM_L
pins: P1A P$1, P2A P$2, P3A P$3

## FKIT-RIBBON_CONNECTOR-2MM_R_REV2
designator J?, comment fabrick.it Conductive Ribbon Connector
footprint FKIT-RIBBON_CONNECTOR_03_2MM_R
pins: P1A P$1, P2A P$2, P3A P$3

## FKIT-SNAP_CONNECTOR-FEMALE
designator ?, comment Snap connector for Fabrick.it products
footprint FKIT-SNAP_FEMALE
pins: 1, 2, 3

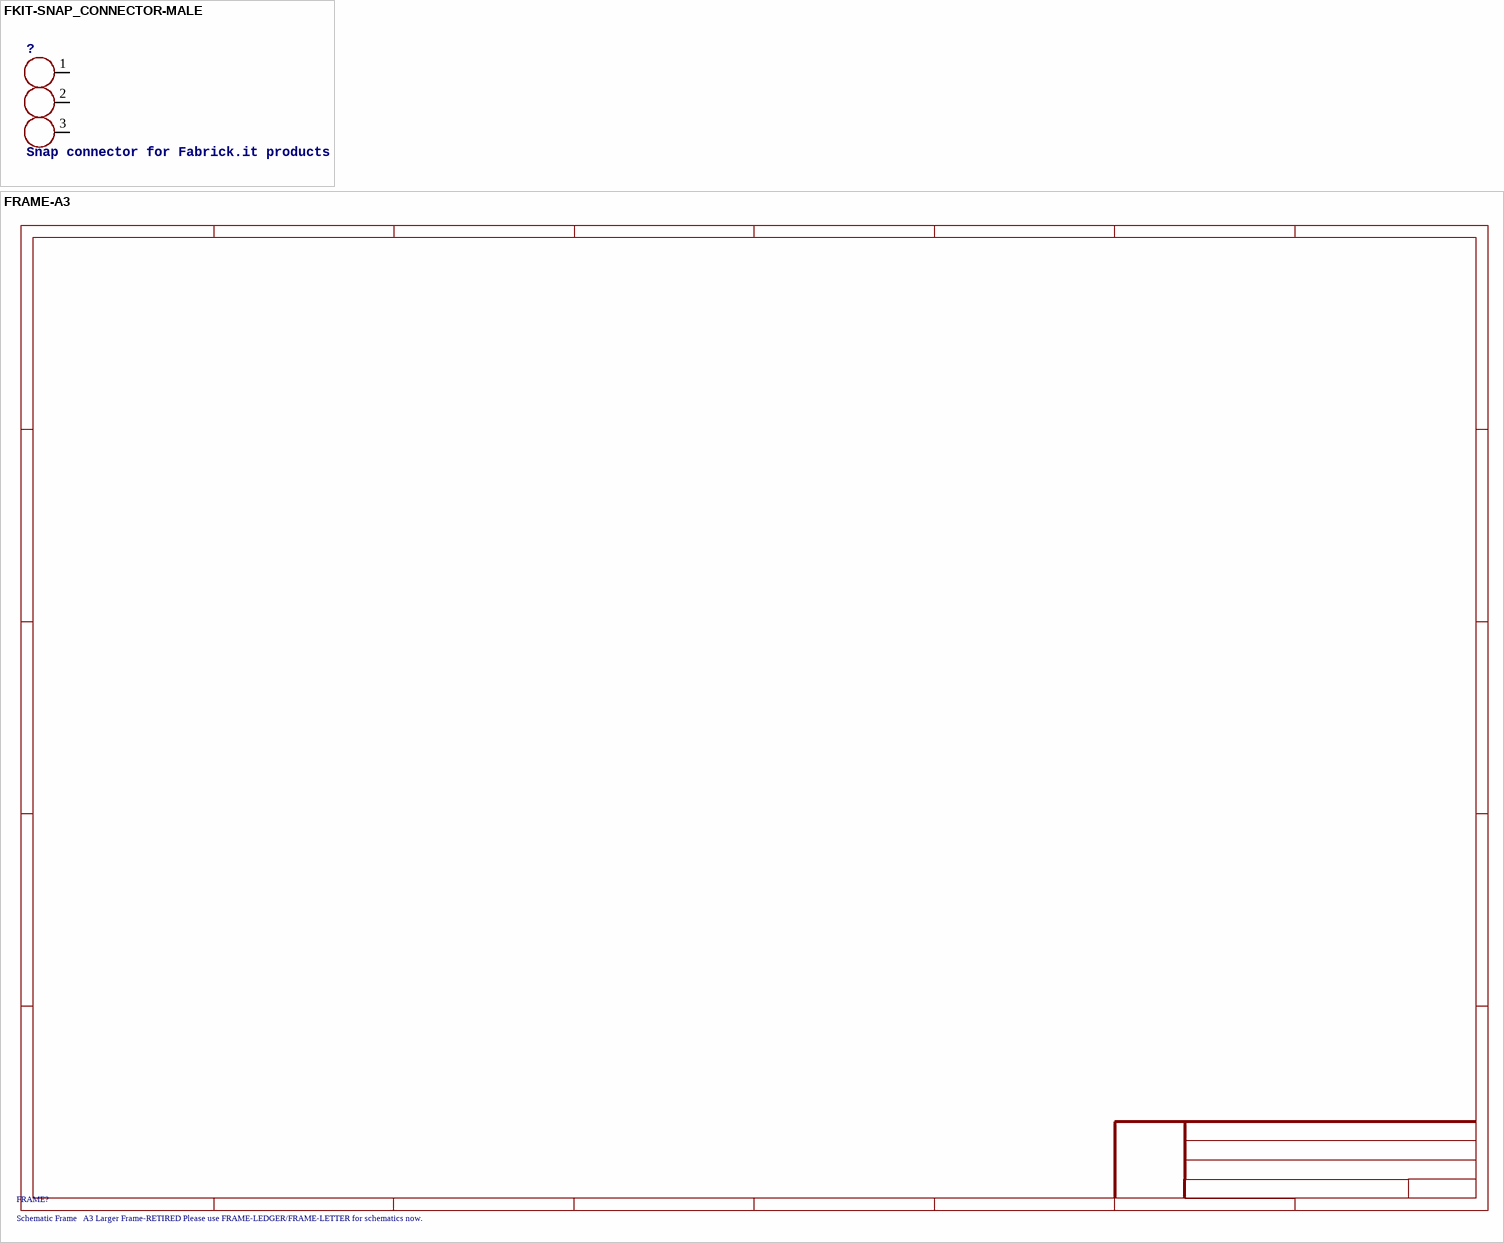
[diagram p12: symbols FKIT-SNAP_CONNECTOR-MALE to FRAME-A3]

## FKIT-SNAP_CONNECTOR-MALE
designator ?, comment Snap connector for Fabrick.it products
footprint FKIT-SNAP_MALE
pins: 1, 2, 3

## FRAME-A3
designator FRAME?, comment Schematic Frame   A3 Larger Frame-RETIRED Please use FRAME-LEDGER/FRAME-LETTER for schematics now.

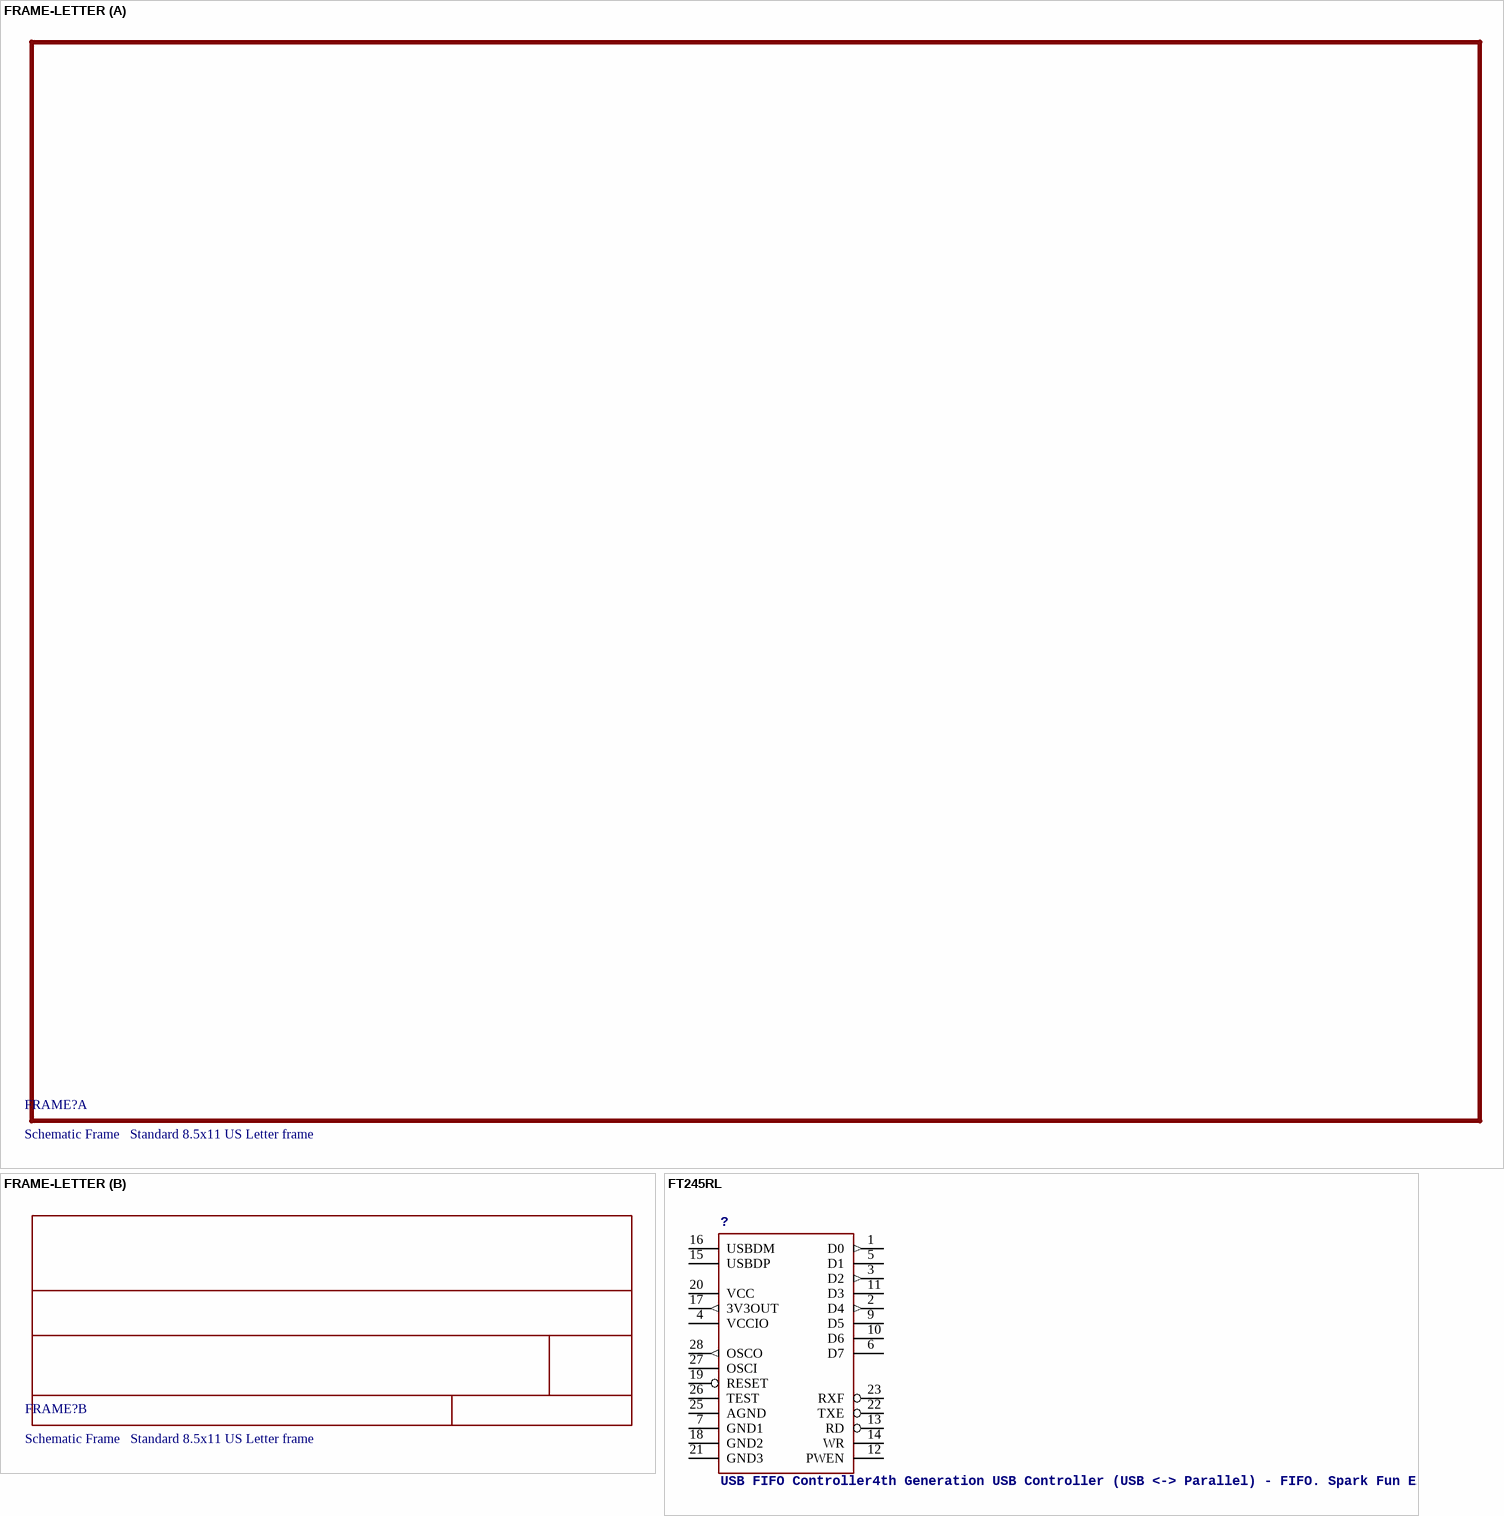
[diagram p13: symbols FRAME-LETTER to FT245RL]

## FRAME-LETTER
designator FRAME?, comment Schematic Frame   Standard 8.5x11 US Letter frame
footprint CREATIVE_COMMONS

## FT245RL
designator ?, comment USB FIFO Controller4th Generation USB Controller (USB <-> Parallel) - FIFO. Spark Fun Electronics SKU : COM-00787   TODO: Move this to retired
PROD_ID: COM-00787
footprint SSOP28DB
pins: 1 D0 (out), 2 D4 (out), 3 D2 (out), 4 VCCIO (power), 5 D1, 6 D7, 7 GND1 (power), 9 D5, 10 D6, 11 D3, 12 PWEN, 13 RD, 14 WR, 15 USBDP, 16 USBDM, 17 3V3OUT (out), 18 GND2 (power), 19 RESET, 20 VCC (power), 21 GND3 (power), 22 TXE, 23 RXF, 25 AGND (power), 26 TEST, 27 OSCI, 28 OSCO (out)

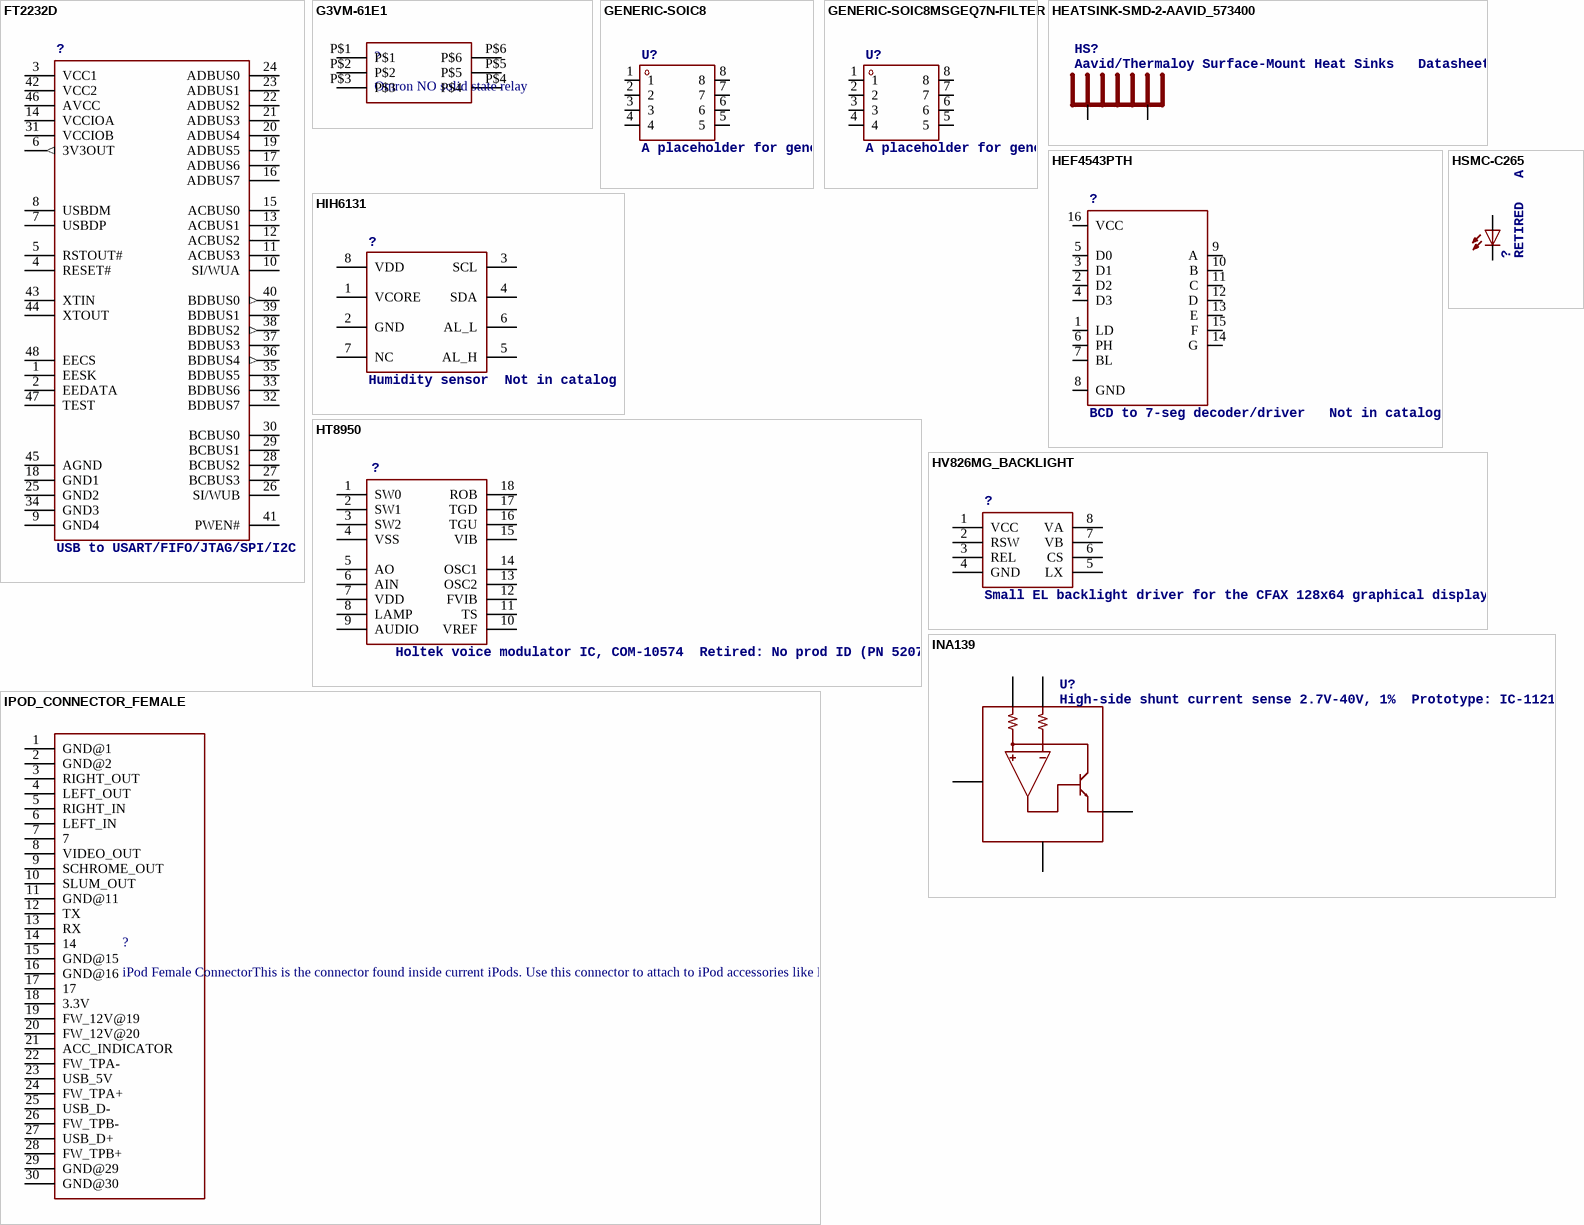
[diagram p14: symbols FT2232D to IPOD_CONNECTOR_FEMALE]

## FT2232D
designator ?, comment USB to USART/FIFO/JTAG/SPI/I2C
footprint LQFP-48
pins: 1 EESK, 2 EEDATA, 3 VCC1 (power), 4 RESET#, 5 RSTOUT#, 6 3V3OUT (out), 7 USBDP, 8 USBDM, 9 GND4, 10 SI/WUA, 11 ACBUS3, 12 ACBUS2, 13 ACBUS1, 14 VCCIOA (power), 15 ACBUS0, 16 ADBUS7, 17 ADBUS6, 18 GND1 (power), 19 ADBUS5, 20 ADBUS4, 21 ADBUS3, 22 ADBUS2, 23 ADBUS1, 24 ADBUS0, 25 GND2 (power), 26 SI/WUB, 27 BCBUS3, 28 BCBUS2, 29 BCBUS1, 30 BCBUS0, 31 VCCIOB, 32 BDBUS7, 33 BDBUS6, 34 GND3 (power), 35 BDBUS5, 36 BDBUS4 (out), 37 BDBUS3, 38 BDBUS2 (out), 39 BDBUS1, 40 BDBUS0 (out), 41 PWEN#, 42 VCC2 (power), 43 XTIN, 44 XTOUT, 45 AGND (power), 46 AVCC, 47 TEST, 48 EECS

## G3VM-61E1
designator ?, comment Omron NO solid state relay
PROD_ID: TRANS-08720
footprint G3VM-61E1
pins: P$1, P$2, P$3, P$4, P$5, P$6

## GENERIC-SOIC8
designator U?, comment A placeholder for generic narrow & wide SOIC8 foorptints - used on the DIP adapter board.  Has strange reference to IC-10141, a Seven Band Graphic Equalizer Display Filter SOIC-8 VFP: IC-10141
footprint SO08-UNIVERSAL
pins: 1, 2, 3, 4, 5, 6, 7, 8

## GENERIC-SOIC8MSGEQ7N-FILTER
designator U?, comment A placeholder for generic narrow & wide SOIC8 foorptints - used on the DIP adapter board.  Has strange reference to IC-10141, a Seven Band Graphic Equalizer Display Filter SOIC-8 VFP: IC-10141
PROD_ID: IC-10141
footprint SO08
pins: 1, 2, 3, 4, 5, 6, 7, 8

## HEATSINK-SMD-2-AAVID_573400
designator HS?, comment Aavid/Thermaloy Surface-Mount Heat Sinks   Datasheet
PROD_ID: COMP-12096
footprint AAVID_573400
pins: P$1, P$2

## HEF4543PTH
designator ?, comment BCD to 7-seg decoder/driver   Not in catalog
footprint DIP16
pins: 1 LD, 2 D2, 3 D1, 4 D3, 5 D0, 6 PH, 7 BL, 8 GND, 9 A, 10 B, 11 C, 12 D, 13 E, 14 G, 15 F, 16 VCC

## HIH6131
designator ?, comment Humidity sensor  Not in catalog
footprint SOIC8
pins: 1 VCORE, 2 GND, 3 SCL, 4 SDA, 5 AL_H, 6 AL_L, 7 NC, 8 VDD

## HSMC-C265
designator ?, comment RETIRED   Avago HSMC-C265 reverse-mounted red LED This is a SMD LED that is mounted to one side of a PCB and shines through a hole to the other side of the PCB. Useful for making boards with no components on one side for mounting and having LED indicator lights shine through the board, panel, etc.
footprint HSMC-C265
pins: A, C

## HT8950
designator ?, comment Holtek voice modulator IC, COM-10574  Retired: No prod ID (PN 5207)
footprint DIL18
pins: 1 SW0, 2 SW1, 3 SW2, 4 VSS, 5 AO, 6 AIN, 7 VDD, 8 LAMP, 9 AUDIO, 10 VREF, 11 TS, 12 FVIB, 13 OSC2, 14 OSC1, 15 VIB, 16 TGU, 17 TGD, 18 ROB

## HV826MG_BACKLIGHT
designator ?, comment Small EL backlight driver for the CFAX 128x64 graphical display.
footprint MSOP8
pins: 1 VCC, 2 RSW, 3 REL (power), 4 GND (power), 5 LX, 6 CS, 7 VB, 8 VA

## INA139
designator U?, comment High-side shunt current sense 2.7V-40V, 1%  Prototype: IC-11211
footprint SOT23-5
pins: 1 OUT, 2 GND, 3 VIN+, 4 VIN-, 5 V+

## IPOD_CONNECTOR_FEMALE
designator ?, comment iPod Female ConnectorThis is the connector found inside current iPods. Use this connector to attach to iPod accessories like Nike+iPods, etc. Schematic and footprint are not yet production proven. Spark Fun Electronics SKU : DEV-08035
footprint IPOD_FEMALE_CONNECTOR
pins: 1 GND@1, 2 GND@2, 3 RIGHT_OUT, 4 LEFT_OUT, 5 RIGHT_IN, 6 LEFT_IN, 7, 8 VIDEO_OUT, 9 SCHROME_OUT, 10 SLUM_OUT, 11 GND@11, 12 TX, 13 RX, 14, 15 GND@15, 16 GND@16, 17, 18 3.3V, 19 FW_12V@19, 20 FW_12V@20, 21 ACC_INDICATOR, 22 FW_TPA-, 23 USB_5V, 24 FW_TPA+, 25 USB_D-, 26 FW_TPB-, 27 USB_D+, 28 FW_TPB+, 29 GND@29, 30 GND@30

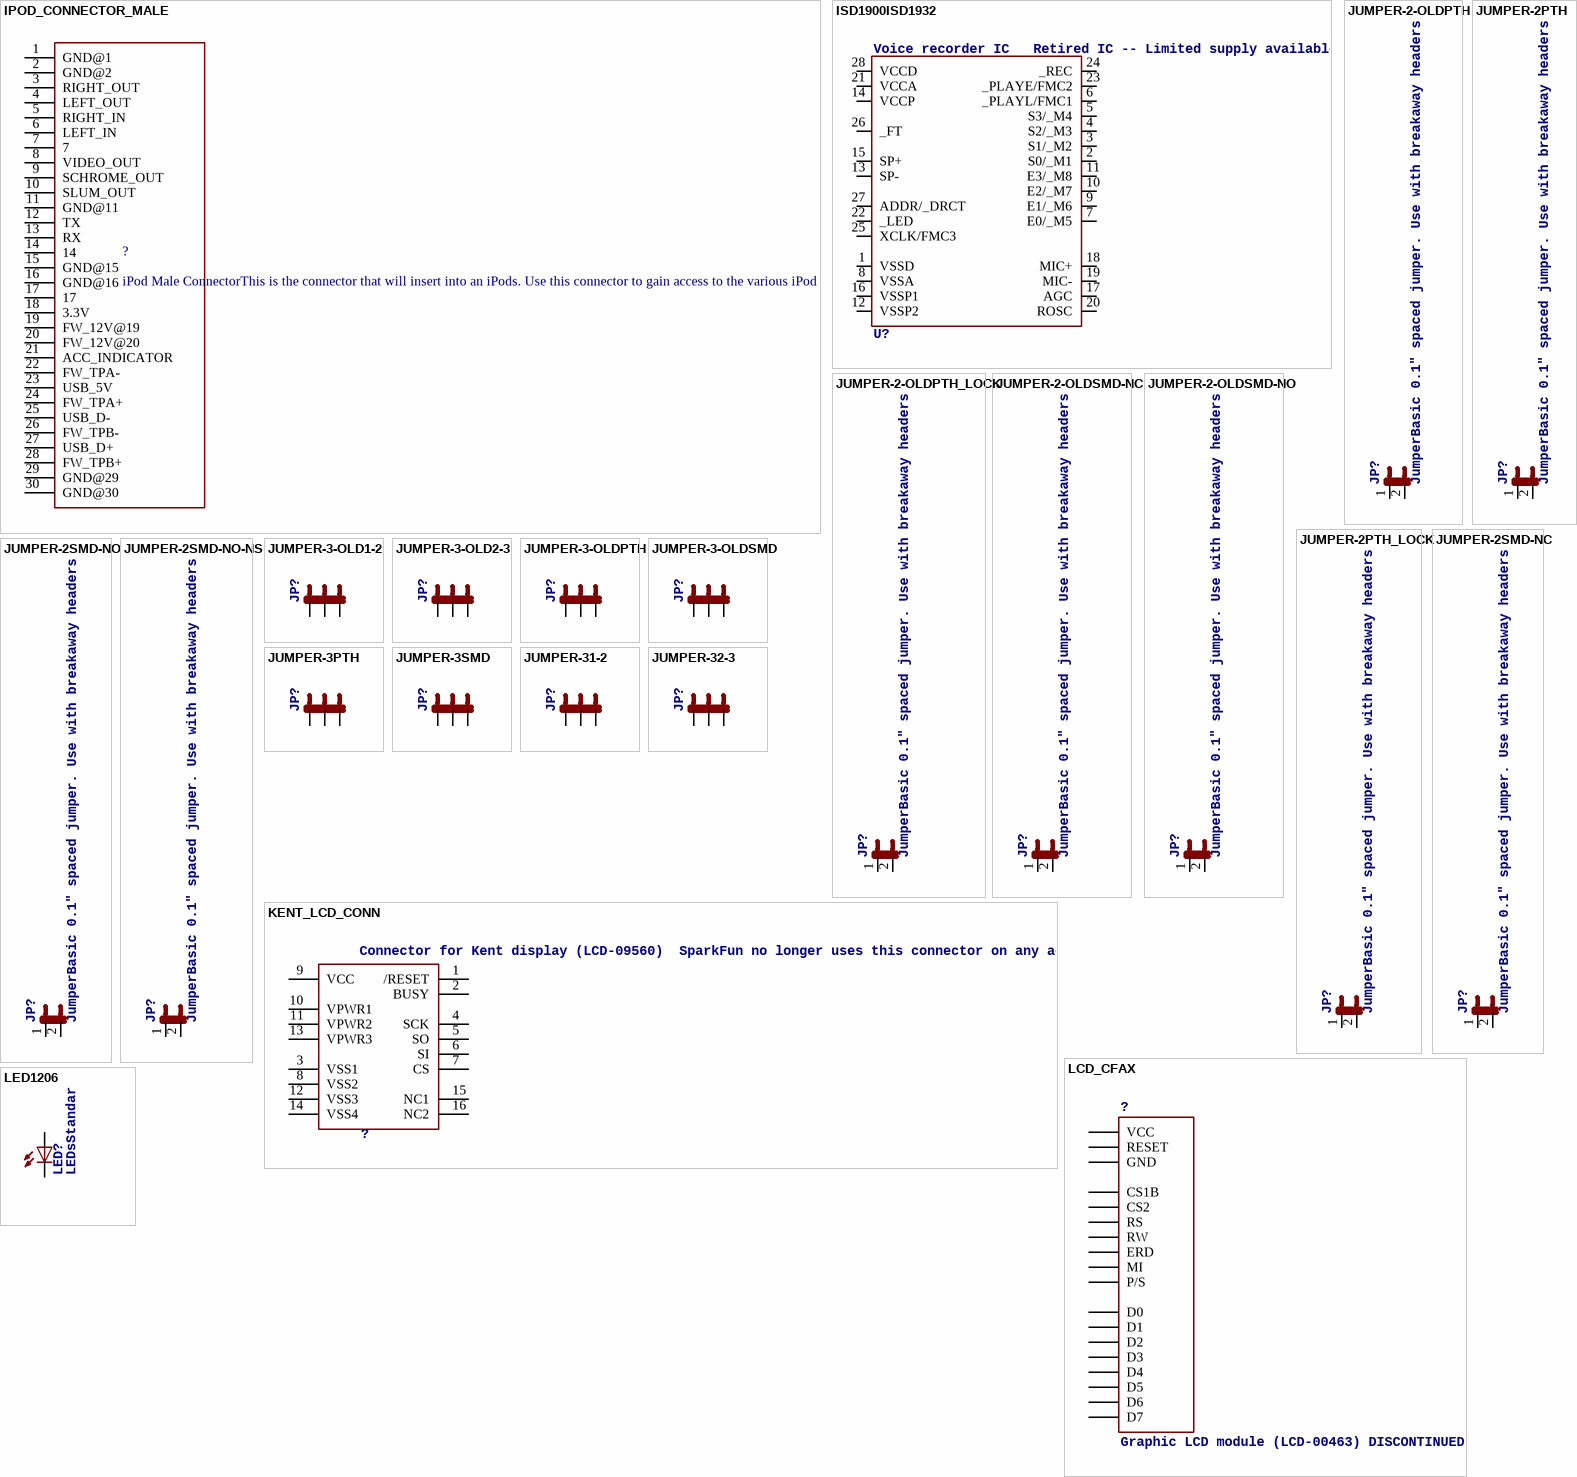
[diagram p15: symbols IPOD_CONNECTOR_MALE to LED1206]

## IPOD_CONNECTOR_MALE
designator ?, comment iPod Male ConnectorThis is the connector that will insert into an iPods. Use this connector to gain access to the various iPod pins. Schematic and footprint are not yet production proven. The PCB thickness must be more thin than the standard 0.062" FR4. Spark Fun Electronics SKU : DEV-00633
footprint IPOD_MALE_CONNECTOR
pins: 1 GND@1, 2 GND@2, 3 RIGHT_OUT, 4 LEFT_OUT, 5 RIGHT_IN, 6 LEFT_IN, 7, 8 VIDEO_OUT, 9 SCHROME_OUT, 10 SLUM_OUT, 11 GND@11, 12 TX, 13 RX, 14, 15 GND@15, 16 GND@16, 17, 18 3.3V, 19 FW_12V@19, 20 FW_12V@20, 21 ACC_INDICATOR, 22 FW_TPA-, 23 USB_5V, 24 FW_TPA+, 25 USB_D-, 26 FW_TPB-, 27 USB_D+, 28 FW_TPB+, 29 GND@29, 30 GND@30

## ISD1900ISD1932
designator U?, comment Voice recorder IC   Retired IC -- Limited supply available
footprint SO-28W
pins: 1 VSSD, 2 S0/_M1, 3 S1/_M2, 4 S2/_M3, 5 S3/_M4, 6 _PLAYL/FMC1, 7 E0/_M5, 8 VSSA, 9 E1/_M6, 10 E2/_M7, 11 E3/_M8, 12 VSSP2, 13 SP-, 14 VCCP, 15 SP+, 16 VSSP1, 17 AGC, 18 MIC+, 19 MIC-, 20 ROSC, 21 VCCA, 22 _LED, 23 _PLAYE/FMC2, 24 _REC, 25 XCLK/FMC3, 26 _FT, 27 ADDR/_DRCT, 28 VCCD

## JUMPER-2-OLDPTH
designator JP?, comment JumperBasic 0.1" spaced jumper. Use with breakaway headers.
footprint 1X02
pins: 1, 2

## JUMPER-2-OLDPTH_LOCK
designator JP?, comment JumperBasic 0.1" spaced jumper. Use with breakaway headers.
footprint 1X02_LOCK
pins: 1, 2

## JUMPER-2-OLDSMD-NC
designator JP?, comment JumperBasic 0.1" spaced jumper. Use with breakaway headers.
footprint SJ_2S
pins: 1, 2

## JUMPER-2-OLDSMD-NO
designator JP?, comment JumperBasic 0.1" spaced jumper. Use with breakaway headers.
footprint SJ_2S-NO
pins: 1, 2

## JUMPER-2PTH
designator JP?, comment JumperBasic 0.1" spaced jumper. Use with breakaway headers.
footprint 1X02
pins: 1, 2

## JUMPER-2PTH_LOCK
designator JP?, comment JumperBasic 0.1" spaced jumper. Use with breakaway headers.
footprint 1X02_LOCK
pins: 1, 2

## JUMPER-2SMD-NC
designator JP?, comment JumperBasic 0.1" spaced jumper. Use with breakaway headers.
footprint SJ_2S
pins: 1, 2

## JUMPER-2SMD-NO
designator JP?, comment JumperBasic 0.1" spaced jumper. Use with breakaway headers.
footprint SJ_2S-NO
pins: 1, 2

## JUMPER-2SMD-NO-NS
designator JP?, comment JumperBasic 0.1" spaced jumper. Use with breakaway headers.
footprint SJ_2S-NO-NS
pins: 1, 2

## JUMPER-3-OLD1-2
designator JP?
footprint SJ_3_PASTE1&2
pins: 1, 2, 3

## JUMPER-3-OLD2-3
designator JP?
footprint SJ_3_PASTE2&3
pins: 1, 2, 3

## JUMPER-3-OLDPTH
designator JP?
footprint 1X03
pins: 1, 2, 3

## JUMPER-3-OLDSMD
designator JP?
footprint SJ_3
pins: 1, 2, 3

## JUMPER-3PTH
designator JP?
footprint 1X03
pins: 1, 2, 3

## JUMPER-3SMD
designator JP?
footprint SJ_3
pins: 1, 2, 3

## JUMPER-31-2
designator JP?
footprint SJ_3_PASTE1&2
pins: 1, 2, 3

## JUMPER-32-3
designator JP?
footprint SJ_3_PASTE2&3
pins: 1, 2, 3

## KENT_LCD_CONN
designator ?, comment Connector for Kent display (LCD-09560)  SparkFun no longer uses this connector on any active designs, however 4Ucon still makes this connector as of 7/19/2016.  http://www.4uconnector.com/online/object/4udrawing/07612.pdf
footprint FFC_16
pins: 1 /RESET, 2 BUSY, 3 VSS1, 4 SCK, 5 SO, 6 SI, 7 CS, 8 VSS2, 9 VCC, 10 VPWR1, 11 VPWR2, 12 VSS3, 13 VPWR3, 14 VSS4, 15 NC1, 16 NC2

## LCD_CFAX
designator ?, comment Graphic LCD module (LCD-00463) DISCONTINUED
footprint LCD_CFAX
pins: P$1 VCC, P$2 GND, P$3 CS1B, P$4 CS2, P$5 RESET, P$6 RS, P$7 RW, P$8 ERD, P$9 D0, P$10 D1, P$11 D2, P$12 D3, P$13 D4, P$14 D5, P$15 D6, P$16 D7, P$17 MI, P$18 P/S

## LED1206
designator LED?, comment LEDsStandard schematic elements and footprints for 5mm, 3mm, 1206, and 0603 sized LEDs. 5mm - Spark Fun Electronics SKU : Comp-SBL
footprint LED-1206
pins: A, C

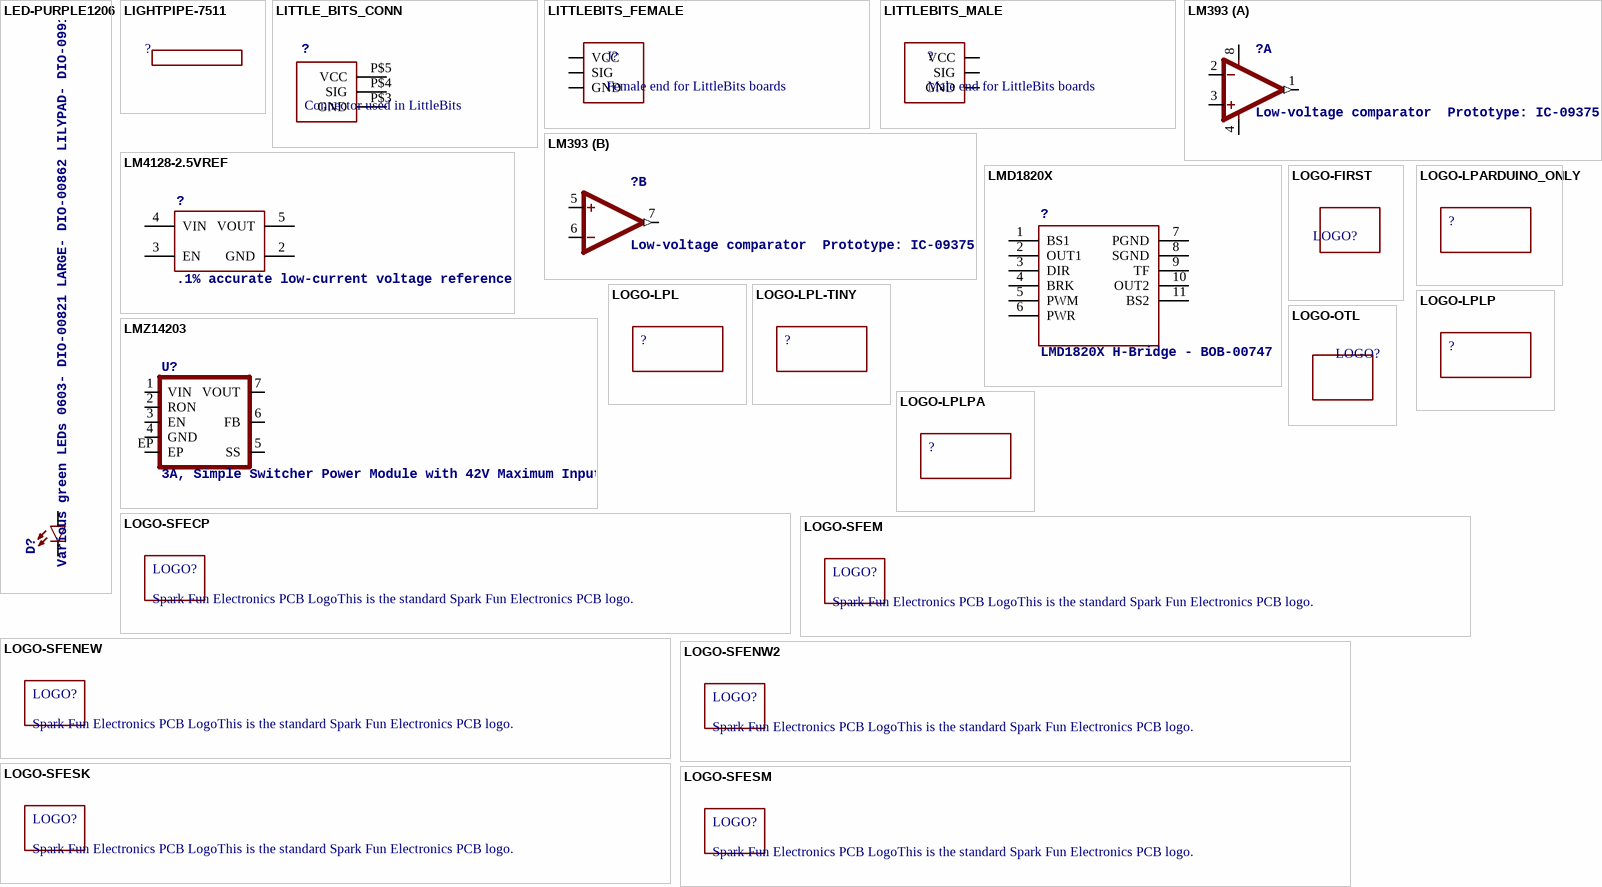
[diagram p16: symbols LED-PURPLE1206 to LOGO-SFESM]

## LED-PURPLE1206
designator D?, comment Various green LEDs 0603- DIO-00821 LARGE- DIO-00862 LILYPAD- DIO-09910
PROD_ID: DIO-11140
footprint LED-1206
pins: A, C

## LIGHTPIPE-7511
designator ?
footprint LIGHTPIPE-7511

## LITTLE_BITS_CONN
designator ?, comment Connector used in LittleBits
footprint LITTLEBITS
pins: P$3 GND, P$4 SIG, P$5 VCC

## LITTLEBITS_FEMALE
designator J?, comment Female end for LittleBits boards
footprint LITTLE_BITS_FEMALE
pins: SIG, V+ VCC, V- GND

## LITTLEBITS_MALE
designator ?, comment Male end for LittleBits boards
footprint LITTLE_BITS_MALE
pins: SIG, V+ VCC, V- GND

## LM393
designator ?, comment Low-voltage comparator  Prototype: IC-09375
footprint SO08
part A pins: 1 OUT (out), 2 -IN, 3 +IN, 4 V- (power), 8 V+ (power)
part B pins: 5 +IN, 6 -IN, 7 OUT (out)

## LM4128-2.5VREF
designator ?, comment .1% accurate low-current voltage reference
footprint SOT23-5
pins: 2 GND, 3 EN, 4 VIN, 5 VOUT

## LMD1820X
designator ?, comment LMD1820X H-Bridge - BOB-00747
footprint TO-220-11LEAD
pins: 1 BS1, 2 OUT1, 3 DIR, 4 BRK, 5 PWM, 6 PWR, 7 PGND, 8 SGND, 9 TF, 10 OUT2, 11 BS2

## LMZ14203
designator U?, comment 3A, Simple Switcher Power Module with 42V Maximum Input
footprint TO-PMOD-7
pins: 1 VIN, 2 RON, 3 EN, 4 GND, 5 SS, 6 FB, 7 VOUT, EP

## LOGO-FIRST
designator LOGO?
footprint FRIST_LOGO

## LOGO-LPARDUINO_ONLY
designator ?
footprint LOGO-A

## LOGO-LPL
designator ?
footprint LOGO-L

## LOGO-LPL-TINY
designator ?
footprint LOGO-L-TINY

## LOGO-LPLP
designator ?
footprint LOGO-LILYPAD

## LOGO-LPLPA
designator ?
footprint LOGO-LPA

## LOGO-OTL
designator LOGO?
footprint OVERTONE_LOGO

## LOGO-SFECP
designator LOGO?, comment Spark Fun Electronics PCB LogoThis is the standard Spark Fun Electronics PCB logo.
footprint SFE-LOGO-FLAME-COPPER

## LOGO-SFEM
designator LOGO?, comment Spark Fun Electronics PCB LogoThis is the standard Spark Fun Electronics PCB logo.
footprint SFE-LOGO

## LOGO-SFENEW
designator LOGO?, comment Spark Fun Electronics PCB LogoThis is the standard Spark Fun Electronics PCB logo.
footprint SFE-NEW-WEBLOGO

## LOGO-SFENW2
designator LOGO?, comment Spark Fun Electronics PCB LogoThis is the standard Spark Fun Electronics PCB logo.
footprint SFE-NEW-WEB

## LOGO-SFESK
designator LOGO?, comment Spark Fun Electronics PCB LogoThis is the standard Spark Fun Electronics PCB logo.
footprint SFE-LOGO-FLAME

## LOGO-SFESM
designator LOGO?, comment Spark Fun Electronics PCB LogoThis is the standard Spark Fun Electronics PCB logo.
footprint SFE-NEW-WEB-SOLDERMASK

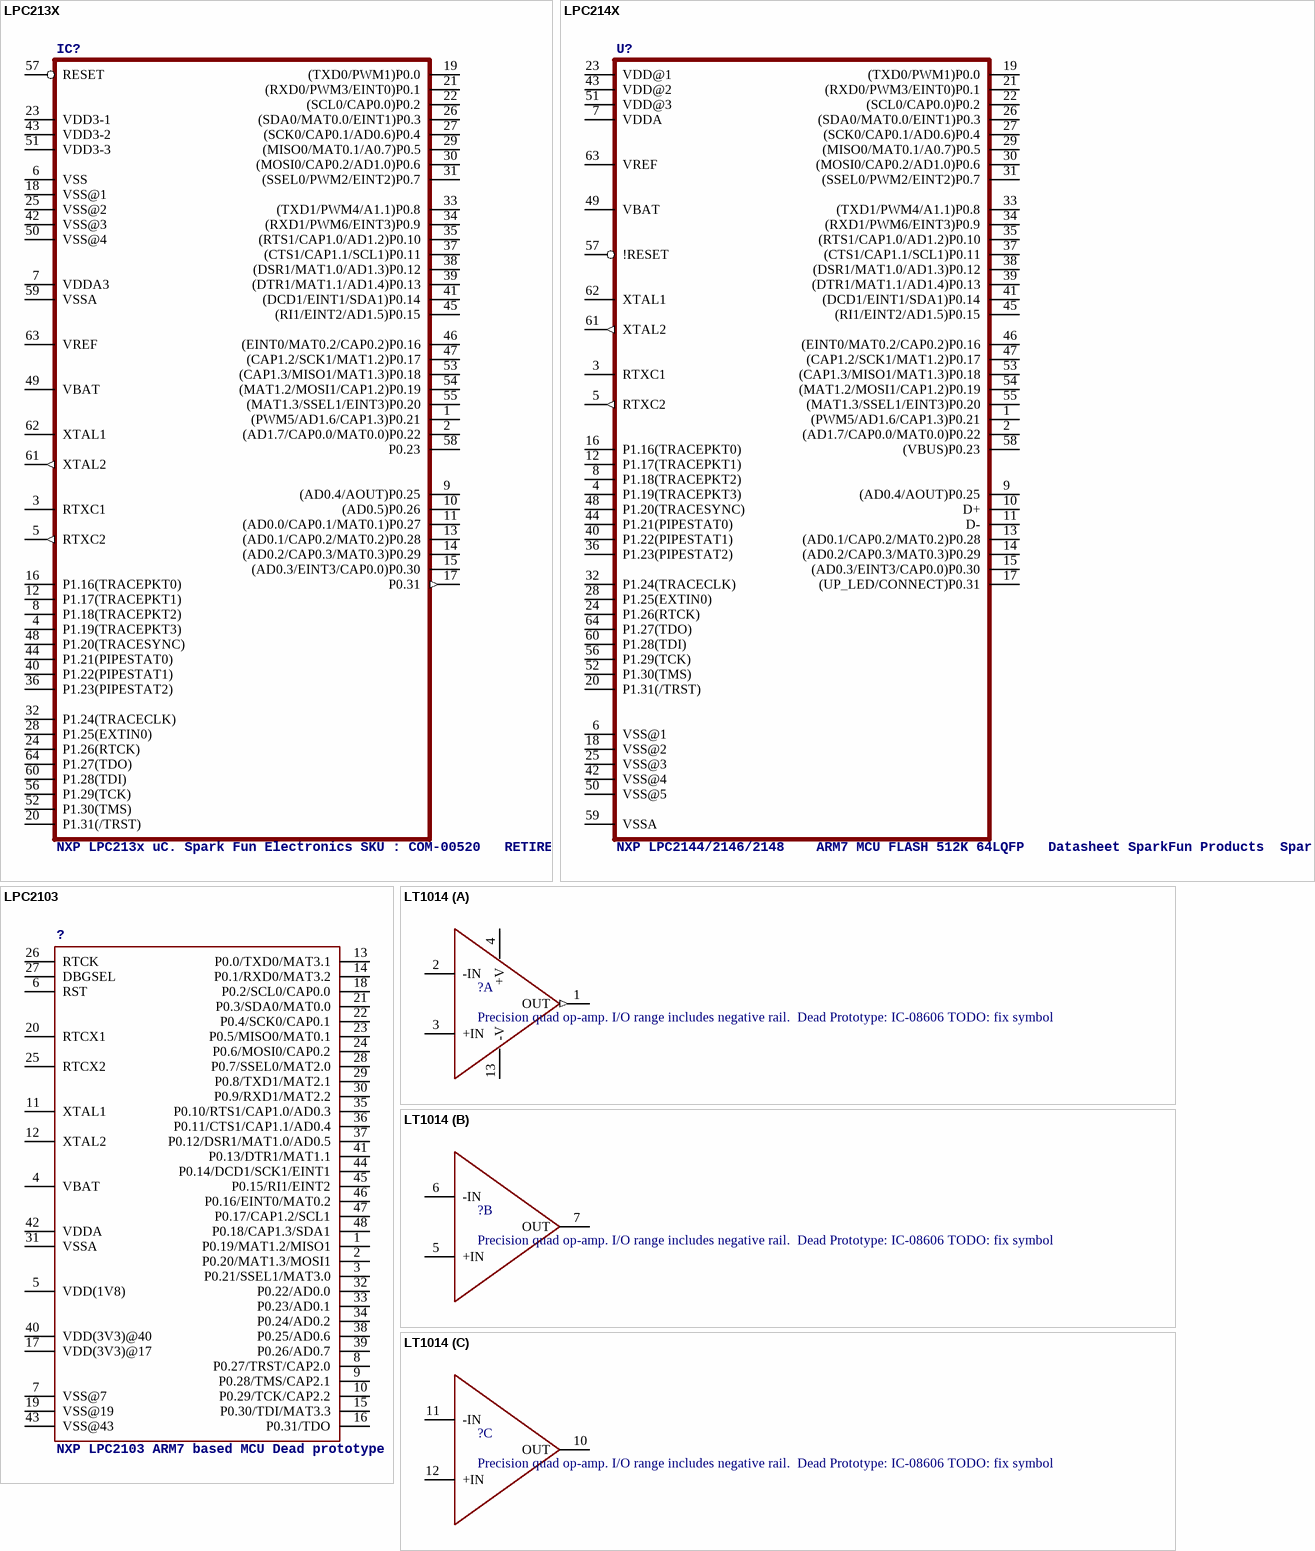
[diagram p17: symbols LPC213X to LT1014]

## LPC213X
designator IC?, comment NXP LPC213x uC. Spark Fun Electronics SKU : COM-00520   RETIRED
footprint SQFP-S-10X10-64_MCU
pins: 1 (PWM5/AD1.6/CAP1.3)P0.21, 2 (AD1.7/CAP0.0/MAT0.0)P0.22, 3 RTXC1, 4 P1.19(TRACEPKT3), 5 RTXC2 (out), 6 VSS (power), 7 VDDA3 (power), 8 P1.18(TRACEPKT2), 9 (AD0.4/AOUT)P0.25, 10 (AD0.5)P0.26, 11 (AD0.0/CAP0.1/MAT0.1)P0.27, 12 P1.17(TRACEPKT1), 13 (AD0.1/CAP0.2/MAT0.2)P0.28, 14 (AD0.2/CAP0.3/MAT0.3)P0.29, 15 (AD0.3/EINT3/CAP0.0)P0.30, 16 P1.16(TRACEPKT0), 17 P0.31 (out), 18 VSS@1 (power), 19 (TXD0/PWM1)P0.0, 20 P1.31(/TRST), 21 (RXD0/PWM3/EINT0)P0.1, 22 (SCL0/CAP0.0)P0.2, 23 VDD3-1 (power), 24 P1.26(RTCK), 25 VSS@2 (power), 26 (SDA0/MAT0.0/EINT1)P0.3, 27 (SCK0/CAP0.1/AD0.6)P0.4, 28 P1.25(EXTIN0), 29 (MISO0/MAT0.1/A0.7)P0.5, 30 (MOSI0/CAP0.2/AD1.0)P0.6, 31 (SSEL0/PWM2/EINT2)P0.7, 32 P1.24(TRACECLK), 33 (TXD1/PWM4/A1.1)P0.8, 34 (RXD1/PWM6/EINT3)P0.9, 35 (RTS1/CAP1.0/AD1.2)P0.10, 36 P1.23(PIPESTAT2), 37 (CTS1/CAP1.1/SCL1)P0.11, 38 (DSR1/MAT1.0/AD1.3)P0.12, 39 (DTR1/MAT1.1/AD1.4)P0.13, 40 P1.22(PIPESTAT1), 41 (DCD1/EINT1/SDA1)P0.14, 42 VSS@3 (power), 43 VDD3-2 (power), 44 P1.21(PIPESTAT0), 45 (RI1/EINT2/AD1.5)P0.15, 46 (EINT0/MAT0.2/CAP0.2)P0.16, 47 (CAP1.2/SCK1/MAT1.2)P0.17, 48 P1.20(TRACESYNC), 49 VBAT (power), 50 VSS@4 (power), 51 VDD3-3 (power), 52 P1.30(TMS), 53 (CAP1.3/MISO1/MAT1.3)P0.18, 54 (MAT1.2/MOSI1/CAP1.2)P0.19, 55 (MAT1.3/SSEL1/EINT3)P0.20, 56 P1.29(TCK), 57 RESET, 58 P0.23, 59 VSSA (power), 60 P1.28(TDI), 61 XTAL2 (out), 62 XTAL1, 63 VREF, 64 P1.27(TDO)

## LPC214X
designator U?, comment NXP LPC2144/2146/2148    ARM7 MCU FLASH 512K 64LQFP   Datasheet SparkFun Products  SparkFun Logomatic v2 - Serial SD Datalogger (FAT32) (WIG-12772)
PROD_ID: IC-07934
footprint LQFP-10X10-64_MCU
pins: 1 (PWM5/AD1.6/CAP1.3)P0.21, 2 (AD1.7/CAP0.0/MAT0.0)P0.22, 3 RTXC1, 4 P1.19(TRACEPKT3), 5 RTXC2 (out), 6 VSS@1 (power), 7 VDDA (power), 8 P1.18(TRACEPKT2), 9 (AD0.4/AOUT)P0.25, 10 D+, 11 D-, 12 P1.17(TRACEPKT1), 13 (AD0.1/CAP0.2/MAT0.2)P0.28, 14 (AD0.2/CAP0.3/MAT0.3)P0.29, 15 (AD0.3/EINT3/CAP0.0)P0.30, 16 P1.16(TRACEPKT0), 17 (UP_LED/CONNECT)P0.31, 18 VSS@2 (power), 19 (TXD0/PWM1)P0.0, 20 P1.31(/TRST), 21 (RXD0/PWM3/EINT0)P0.1, 22 (SCL0/CAP0.0)P0.2, 23 VDD@1 (power), 24 P1.26(RTCK), 25 VSS@3 (power), 26 (SDA0/MAT0.0/EINT1)P0.3, 27 (SCK0/CAP0.1/AD0.6)P0.4, 28 P1.25(EXTIN0), 29 (MISO0/MAT0.1/A0.7)P0.5, 30 (MOSI0/CAP0.2/AD1.0)P0.6, 31 (SSEL0/PWM2/EINT2)P0.7, 32 P1.24(TRACECLK), 33 (TXD1/PWM4/A1.1)P0.8, 34 (RXD1/PWM6/EINT3)P0.9, 35 (RTS1/CAP1.0/AD1.2)P0.10, 36 P1.23(PIPESTAT2), 37 (CTS1/CAP1.1/SCL1)P0.11, 38 (DSR1/MAT1.0/AD1.3)P0.12, 39 (DTR1/MAT1.1/AD1.4)P0.13, 40 P1.22(PIPESTAT1), 41 (DCD1/EINT1/SDA1)P0.14, 42 VSS@4 (power), 43 VDD@2 (power), 44 P1.21(PIPESTAT0), 45 (RI1/EINT2/AD1.5)P0.15, 46 (EINT0/MAT0.2/CAP0.2)P0.16, 47 (CAP1.2/SCK1/MAT1.2)P0.17, 48 P1.20(TRACESYNC), 49 VBAT (power), 50 VSS@5 (power), 51 VDD@3 (power), 52 P1.30(TMS), 53 (CAP1.3/MISO1/MAT1.3)P0.18, 54 (MAT1.2/MOSI1/CAP1.2)P0.19, 55 (MAT1.3/SSEL1/EINT3)P0.20, 56 P1.29(TCK), 57 !RESET, 58 (VBUS)P0.23, 59 VSSA (power), 60 P1.28(TDI), 61 XTAL2 (out), 62 XTAL1, 63 VREF, 64 P1.27(TDO)

## LPC2103
designator ?, comment NXP LPC2103 ARM7 based MCU Dead prototype
PROD_ID: IC-09387
footprint LQFP-48_MCU
pins: 1 P0.19/MAT1.2/MISO1, 2 P0.20/MAT1.3/MOSI1, 3 P0.21/SSEL1/MAT3.0, 4 VBAT, 5 VDD(1V8), 6 RST, 7 VSS@7, 8 P0.27/TRST/CAP2.0, 9 P0.28/TMS/CAP2.1, 10 P0.29/TCK/CAP2.2, 11 XTAL1, 12 XTAL2, 13 P0.0/TXD0/MAT3.1, 14 P0.1/RXD0/MAT3.2, 15 P0.30/TDI/MAT3.3, 16 P0.31/TDO, 17 VDD(3V3)@17, 18 P0.2/SCL0/CAP0.0, 19 VSS@19, 20 RTCX1, 21 P0.3/SDA0/MAT0.0, 22 P0.4/SCK0/CAP0.1, 23 P0.5/MISO0/MAT0.1, 24 P0.6/MOSI0/CAP0.2, 25 RTCX2, 26 RTCK, 27 DBGSEL, 28 P0.7/SSEL0/MAT2.0, 29 P0.8/TXD1/MAT2.1, 30 P0.9/RXD1/MAT2.2, 31 VSSA, 32 P0.22/AD0.0, 33 P0.23/AD0.1, 34 P0.24/AD0.2, 35 P0.10/RTS1/CAP1.0/AD0.3, 36 P0.11/CTS1/CAP1.1/AD0.4, 37 P0.12/DSR1/MAT1.0/AD0.5, 38 P0.25/AD0.6, 39 P0.26/AD0.7, 40 VDD(3V3)@40, 41 P0.13/DTR1/MAT1.1, 42 VDDA, 43 VSS@43, 44 P0.14/DCD1/SCK1/EINT1, 45 P0.15/RI1/EINT2, 46 P0.16/EINT0/MAT0.2, 47 P0.17/CAP1.2/SCL1, 48 P0.18/CAP1.3/SDA1

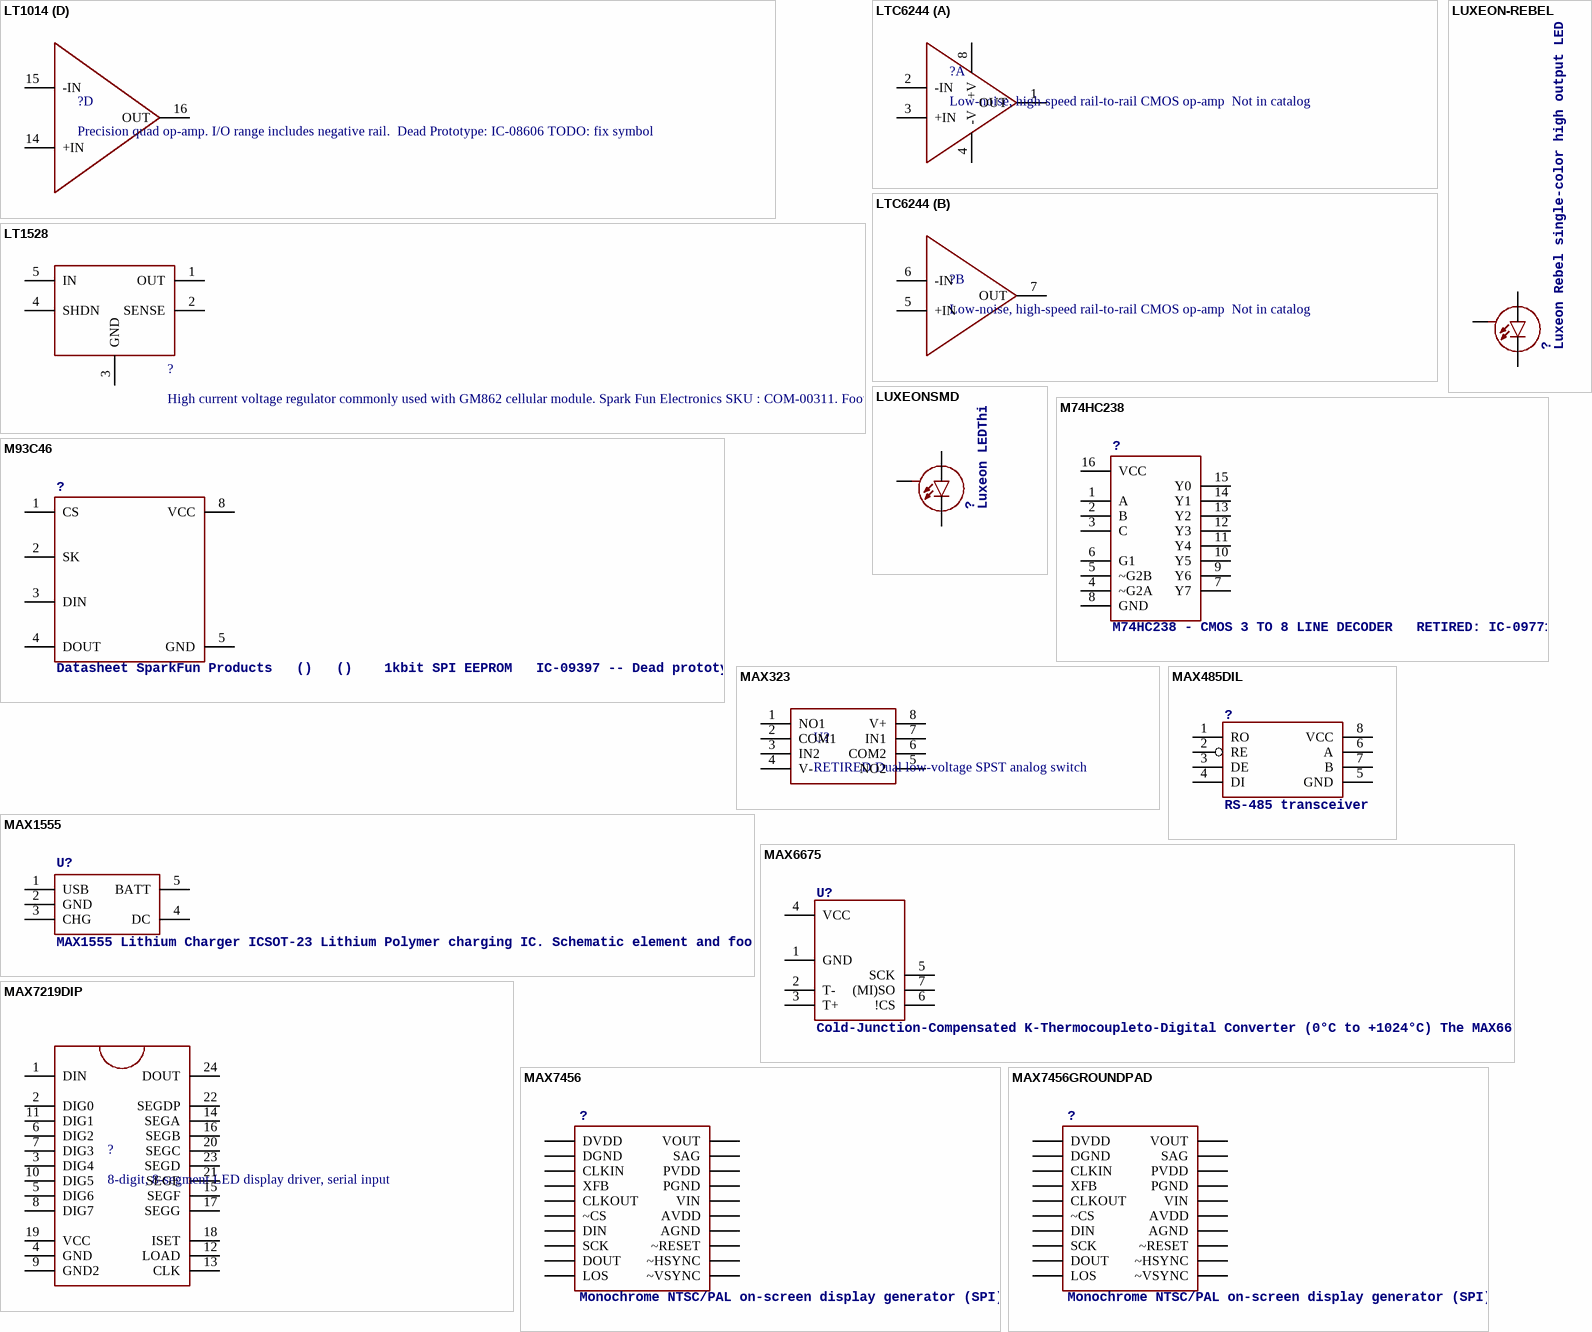
[diagram p18: symbols LT1014 to MAX7456GROUNDPAD]

## LT1014
designator ?, comment Precision quad op-amp. I/O range includes negative rail.  Dead Prototype: IC-08606 TODO: fix symbol
footprint SO16L
part A pins: 1 OUT (out), 2 -IN, 3 +IN, 4 +V (power), 13 -V (power)
part B pins: 5 +IN (power), 6 -IN (power), 7 OUT (power)
part C pins: 10 OUT (power), 11 -IN (power), 12 +IN (power)
part D pins: 14 +IN (power), 15 -IN (power), 16 OUT (power)

## LT1528
designator ?, comment High current voltage regulator commonly used with GM862 cellular module. Spark Fun Electronics SKU : COM-00311. Footprint may need to have the large paste aperature reduced.
footprint Q5-DD
pins: 1 OUT, 2 SENSE, 3 GND, 4 SHDN, 5 IN

## LTC6244
designator ?, comment Low-noise, high-speed rail-to-rail CMOS op-amp  Not in catalog
footprint MSOP8
part A pins: 1 OUT, 2 -IN, 3 +IN, 4 -V, 8 +V
part B pins: 5 +IN, 6 -IN, 7 OUT

## LUXEON-REBEL
designator ?, comment Luxeon Rebel single-color high output LED
footprint LUXEON-REBEL
pins: ANODE A, CATHODE C, P$3 S

## LUXEONSMD
designator ?, comment Luxeon LEDThis footprint works with the current 1 Watt, 3 Watt, and 5 Watt LEDs. These blindingly bright LEDs generate a lot of heat so the footprint has a large pad under the LED for thermal transfer. Schematic and footprint are proven. Spark Fun Electronics SKU : COM-00603
footprint LUXEON
pins: A, C, S

## M74HC238
designator ?, comment M74HC238 - CMOS 3 TO 8 LINE DECODER   RETIRED: IC-09771
footprint DIP16
pins: 1 A, 2 B, 3 C, 4 ~G2A, 5 ~G2B, 6 G1, 7 Y7, 8 GND, 9 Y6, 10 Y5, 11 Y4, 12 Y3, 13 Y2, 14 Y1, 15 Y0, 16 VCC

## M93C46
designator ?, comment Datasheet SparkFun Products   ()   ()    1kbit SPI EEPROM   IC-09397 -- Dead prototype
footprint SO08
pins: 1 CS, 2 SK, 3 DIN, 4 DOUT, 5 GND, 8 VCC

## MAX323
designator U?, comment RETIRED Dual low-voltage SPST analog switch
PROD_ID: IC-08171
footprint SO08
pins: 1 NO1, 2 COM1, 3 IN2, 4 V-, 5 NO2, 6 COM2, 7 IN1, 8 V+

## MAX485DIL
designator ?, comment RS-485 transceiver
footprint DIL08
pins: 1 RO, 2 RE, 3 DE, 4 DI, 5 GND, 6 A, 7 B, 8 VCC

## MAX1555
designator U?, comment MAX1555 Lithium Charger ICSOT-23 Lithium Polymer charging IC. Schematic element and footprint proven. Spark Fun Electronics SKU : COM-00674
footprint SOT23-5
pins: 1 USB, 2 GND, 3 CHG, 4 DC, 5 BATT

## MAX6675
designator U?, comment Cold-Junction-Compensated K-Thermocoupleto-Digital Converter (0°C to +1024°C) The MAX6675 performs cold-junction compensation and digitizes the signal from a type-K thermocouple. The data is output in a 12-bit resolution, SPI™-compatible, read-only format. This converter resolves temperatures to 0.25°C, allows readings as high as +1024°C, and exhibits thermocouple accuracy of 8LSBs for temperatures ranging from 0°C to +700°C.  Dead Prototype: IC-12512
PROD_ID: IC-12512
footprint SOIC8
pins: 1 GND, 2 T-, 3 T+, 4 VCC, 5 SCK, 6 !CS, 7 (MI)SO

## MAX7219DIP
designator ?, comment 8-digit, 8-segment LED display driver, serial input
footprint DIL24
pins: 1 DIN, 2 DIG0, 3 DIG4, 4 GND, 5 DIG6, 6 DIG2, 7 DIG3, 8 DIG7, 9 GND2, 10 DIG5, 11 DIG1, 12 LOAD, 13 CLK, 14 SEGA, 15 SEGF, 16 SEGB, 17 SEGG, 18 ISET, 19 VCC, 20 SEGC, 21 SEGE, 22 SEGDP, 23 SEGD, 24 DOUT

## MAX7456
designator ?, comment Monochrome NTSC/PAL on-screen display generator (SPI)
footprint TSSOP28
pins: 3 DVDD, 4 DGND, 5 CLKIN, 6 XFB, 7 CLKOUT, 8 ~CS, 9 DIN, 10 SCK, 11 DOUT, 12 LOS, 17 ~VSYNC, 18 ~HSYNC, 19 ~RESET, 20 AGND, 21 AVDD, 22 VIN, 23 PGND, 24 PVDD, 25 SAG, 26 VOUT

## MAX7456GROUNDPAD
designator ?, comment Monochrome NTSC/PAL on-screen display generator (SPI)
footprint TSSOP28-GROUNDPAD
pins: 3 DVDD, 4 DGND, 5 CLKIN, 6 XFB, 7 CLKOUT, 8 ~CS, 9 DIN, 10 SCK, 11 DOUT, 12 LOS, 17 ~VSYNC, 18 ~HSYNC, 19 ~RESET, 20 AGND, 21 AVDD, 22 VIN, 23 PGND, 24 PVDD, 25 SAG, 26 VOUT

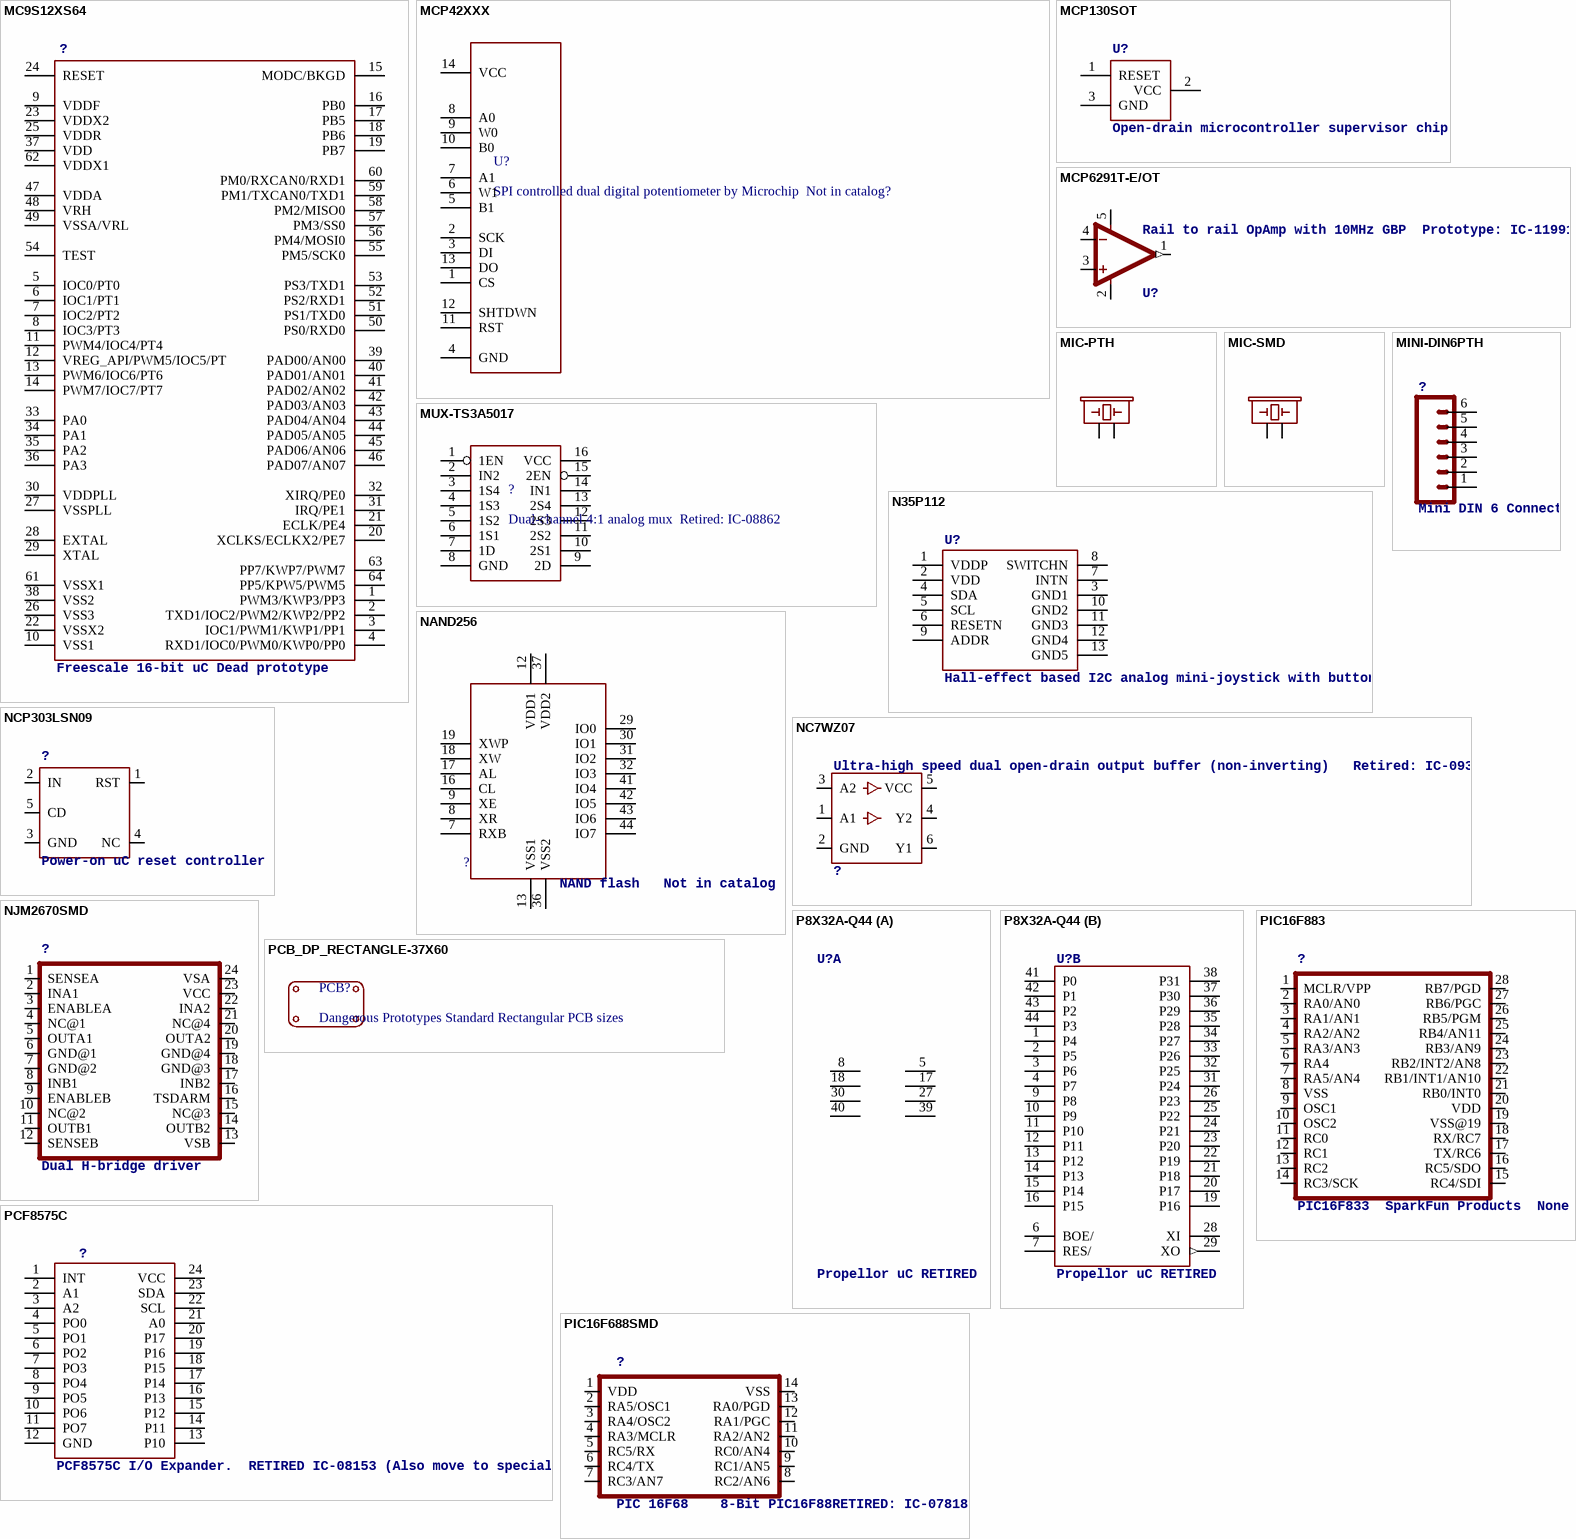
[diagram p19: symbols MC9S12XS64 to PIC16F883]